# Altium integrated library Lattice ORCA Series 2.IntLib: 202 symbols (part 2 of 22)
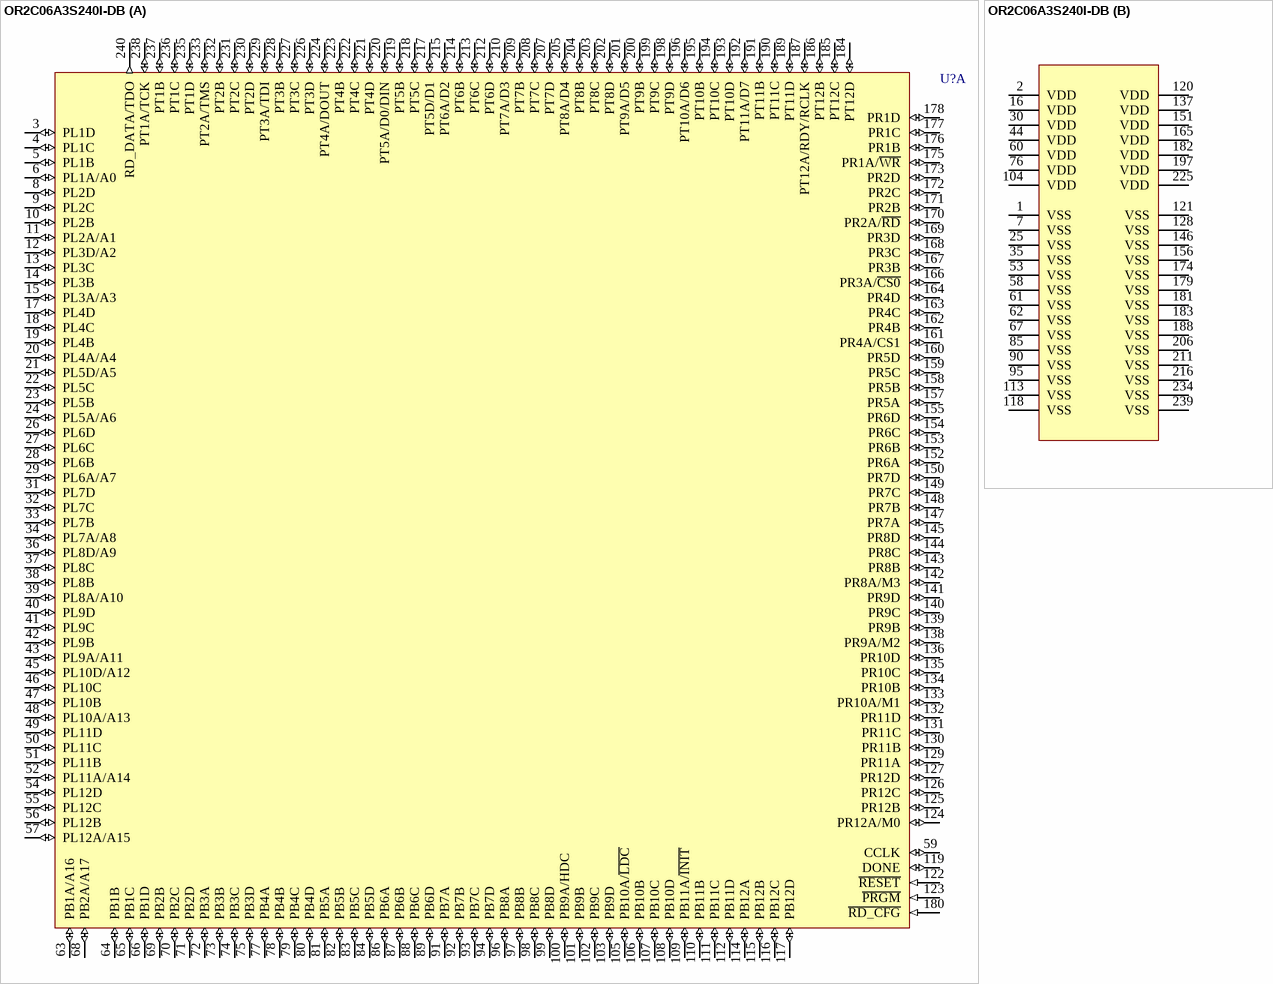
[diagram p193: symbol OR2C06A3S240I-DB]

## OR2C06A3S240I-DB
designator U?
ORCA Series 2C FPGA: 5.0 V, Industrial Grade, 192 User I/Os.; Published: 21-May-2003; LatestRevisionDate: 13-Apr-2006; LatestRevisionNote: IPC-7351 Footprint Added.; DatasheetVersion: Jan-2003; PackageVersion: pkg_32, Aug-2005; PackageReference: PQFP240; Publisher: Altium Limited; PackageDescription: 240-Pin Shrink Quad Flat Pack 0.5 mm Pitch; ComponentLink1Description: Manufacturer Link; ComponentLink1URL: http://www.latticesemi.com/products/fpga/orca/orca2/index.cfm; ComponentLink2Description: Datasheet; ComponentLink2URL: http://www.latticesemi.com/lit/docs/datasheets/fpga/ds99-094fpga.pdf; ComponentLink3Description: Lattice Login; ComponentLink3URL: http://www.latticesemi.com/account/login.cfm
footprint PQFP240_N (Shrink QFP, 240-Leads, Body 32x32mm, Pitch 0.5mm, IPC Medium Density)
footprint PQFP240_L (Shrink QFP, 240-Leads, Body 32x32mm, Pitch 0.5mm, IPC High Density)
footprint PQFP240_M (Shrink QFP, 240-Leads, Body 32x32mm, Pitch 0.5mm, IPC Low Density)
3D model OR2C06A-PQFP240 (240-Pin Shrink Quad Flat Pack 0.5 mm Pitch)
part A pins: 3 PL1D (io), 4 PL1C (io), 5 PL1B (io), 6 PL1A/A0 (io), 8 PL2D (io), 9 PL2C (io), 10 PL2B (io), 11 PL2A/A1 (io), 12 PL3D/A2 (io), 13 PL3C (io), 14 PL3B (io), 15 PL3A/A3 (io), 17 PL4D (io), 18 PL4C (io), 19 PL4B (io), 20 PL4A/A4 (io), 21 PL5D/A5 (io), 22 PL5C (io), 23 PL5B (io), 24 PL5A/A6 (io), 26 PL6D (io), 27 PL6C (io), 28 PL6B (io), 29 PL6A/A7 (io), 31 PL7D (io), 32 PL7C (io), 33 PL7B (io), 34 PL7A/A8 (io), 36 PL8D/A9 (io), 37 PL8C (io), 38 PL8B (io), 39 PL8A/A10 (io), 40 PL9D (io), 41 PL9C (io), 42 PL9B (io), 43 PL9A/A11 (io), 45 PL10D/A12 (io), 46 PL10C (io), 47 PL10B (io), 48 PL10A/A13 (io), 49 PL11D (io), 50 PL11C (io), 51 PL11B (io), 52 PL11A/A14 (io), 54 PL12D (io), 55 PL12C (io), 56 PL12B (io), 57 PL12A/A15 (io), 59 CCLK (io), 63 PB1A/A16 (io), 64 PB1B (io), 65 PB1C (io), 66 PB1D (io), 68 PB2A/A17 (io), 69 PB2B (io), 70 PB2C (io), 71 PB2D (io), 72 PB3A (io), 73 PB3B (io), 74 PB3C (io), 75 PB3D (io), 77 PB4A (io), 78 PB4B (io), 79 PB4C (io), 80 PB4D (io), 81 PB5A (io), 82 PB5B (io), 83 PB5C (io), 84 PB5D (io), 86 PB6A (io), 87 PB6B (io), 88 PB6C (io), 89 PB6D (io), 91 PB7A (io), 92 PB7B (io), 93 PB7C (io), 94 PB7D (io), 96 PB8A (io), 97 PB8B (io), 98 PB8C (io), 99 PB8D (io), 100 PB9A/HDC (io), 101 PB9B (io), 102 PB9C (io), 103 PB9D (io), 105 PB10A/~{LDC} (io), 106 PB10B (io), 107 PB10C (io), 108 PB10D (io), 109 PB11A/~{INIT} (io), 110 PB11B (io), 111 PB11C (io), 112 PB11D (io), 114 PB12A (io), 115 PB12B (io), 116 PB12C (io), 117 PB12D (io), 119 DONE (io), 122 ~{RESET} (in), 123 ~{PRGM} (in), 124 PR12A/M0 (io), 125 PR12B (io), 126 PR12C (io), 127 PR12D (io), 129 PR11A (io), 130 PR11B (io), 131 PR11C (io), 132 PR11D (io), 133 PR10A/M1 (io), 134 PR10B (io), 135 PR10C (io), 136 PR10D (io), 138 PR9A/M2 (io), 139 PR9B (io), 140 PR9C (io), 141 PR9D (io), 142 PR8A/M3 (io), 143 PR8B (io), 144 PR8C (io), 145 PR8D (io), 147 PR7A (io), 148 PR7B (io), 149 PR7C (io), 150 PR7D (io), 152 PR6A (io), 153 PR6B (io), 154 PR6C (io), 155 PR6D (io), 157 PR5A (io), 158 PR5B (io), 159 PR5C (io), 160 PR5D (io), 161 PR4A/CS1 (io), 162 PR4B (io), 163 PR4C (io), 164 PR4D (io), 166 PR3A/~{CS0} (io), 167 PR3B (io), 168 PR3C (io), 169 PR3D (io), 170 PR2A/~{RD} (io), 171 PR2B (io), 172 PR2C (io), 173 PR2D (io), 175 PR1A/~{WR} (io), 176 PR1B (io), 177 PR1C (io), 178 PR1D (io), 180 ~{RD_CFG} (in), 184 PT12D (io), 185 PT12C (io), 186 PT12B (io), 187 PT12A/RDY/RCLK (io), 189 PT11D (io), 190 PT11C (io), 191 PT11B (io), 192 PT11A/D7 (io), 193 PT10D (io), 194 PT10C (io), 195 PT10B (io), 196 PT10A/D6 (io), 198 PT9D (io), 199 PT9C (io), 200 PT9B (io), 201 PT9A/D5 (io), 202 PT8D (io), 203 PT8C (io), 204 PT8B (io), 205 PT8A/D4 (io), 207 PT7D (io), 208 PT7C (io), 209 PT7B (io), 210 PT7A/D3 (io), 212 PT6D (io), 213 PT6C (io), 214 PT6B (io), 215 PT6A/D2 (io), 217 PT5D/D1 (io), 218 PT5C (io), 219 PT5B (io), 220 PT5A/D0/DIN (io), 221 PT4D (io), 222 PT4C (io), 223 PT4B (io), 224 PT4A/DOUT (io), 226 PT3D (io), 227 PT3C (io), 228 PT3B (io), 229 PT3A/TDI (io), 230 PT2D (io), 231 PT2C (io), 232 PT2B (io), 233 PT2A/TMS (io), 235 PT1D (io), 236 PT1C (io), 237 PT1B (io), 238 PT1A/TCK (io), 240 RD_DATA/TDO (out)
part B pins: 1 VSS (power), 2 VDD (power), 7 VSS (power), 16 VDD (power), 25 VSS (power), 30 VDD (power), 35 VSS (power), 44 VDD (power), 53 VSS (power), 58 VSS (power), 60 VDD (power), 61 VSS (power), 62 VSS (power), 67 VSS (power), 76 VDD (power), 85 VSS (power), 90 VSS (power), 95 VSS (power), 104 VDD (power), 113 VSS (power), 118 VSS (power), 120 VDD (power), 121 VSS (power), 128 VSS (power), 137 VDD (power), 146 VSS (power), 151 VDD (power), 156 VSS (power), 165 VDD (power), 174 VSS (power), 179 VSS (power), 181 VSS (power), 182 VDD (power), 183 VSS (power), 188 VSS (power), 197 VDD (power), 206 VSS (power), 211 VSS (power), 216 VSS (power), 225 VDD (power), 234 VSS (power), 239 VSS (power)

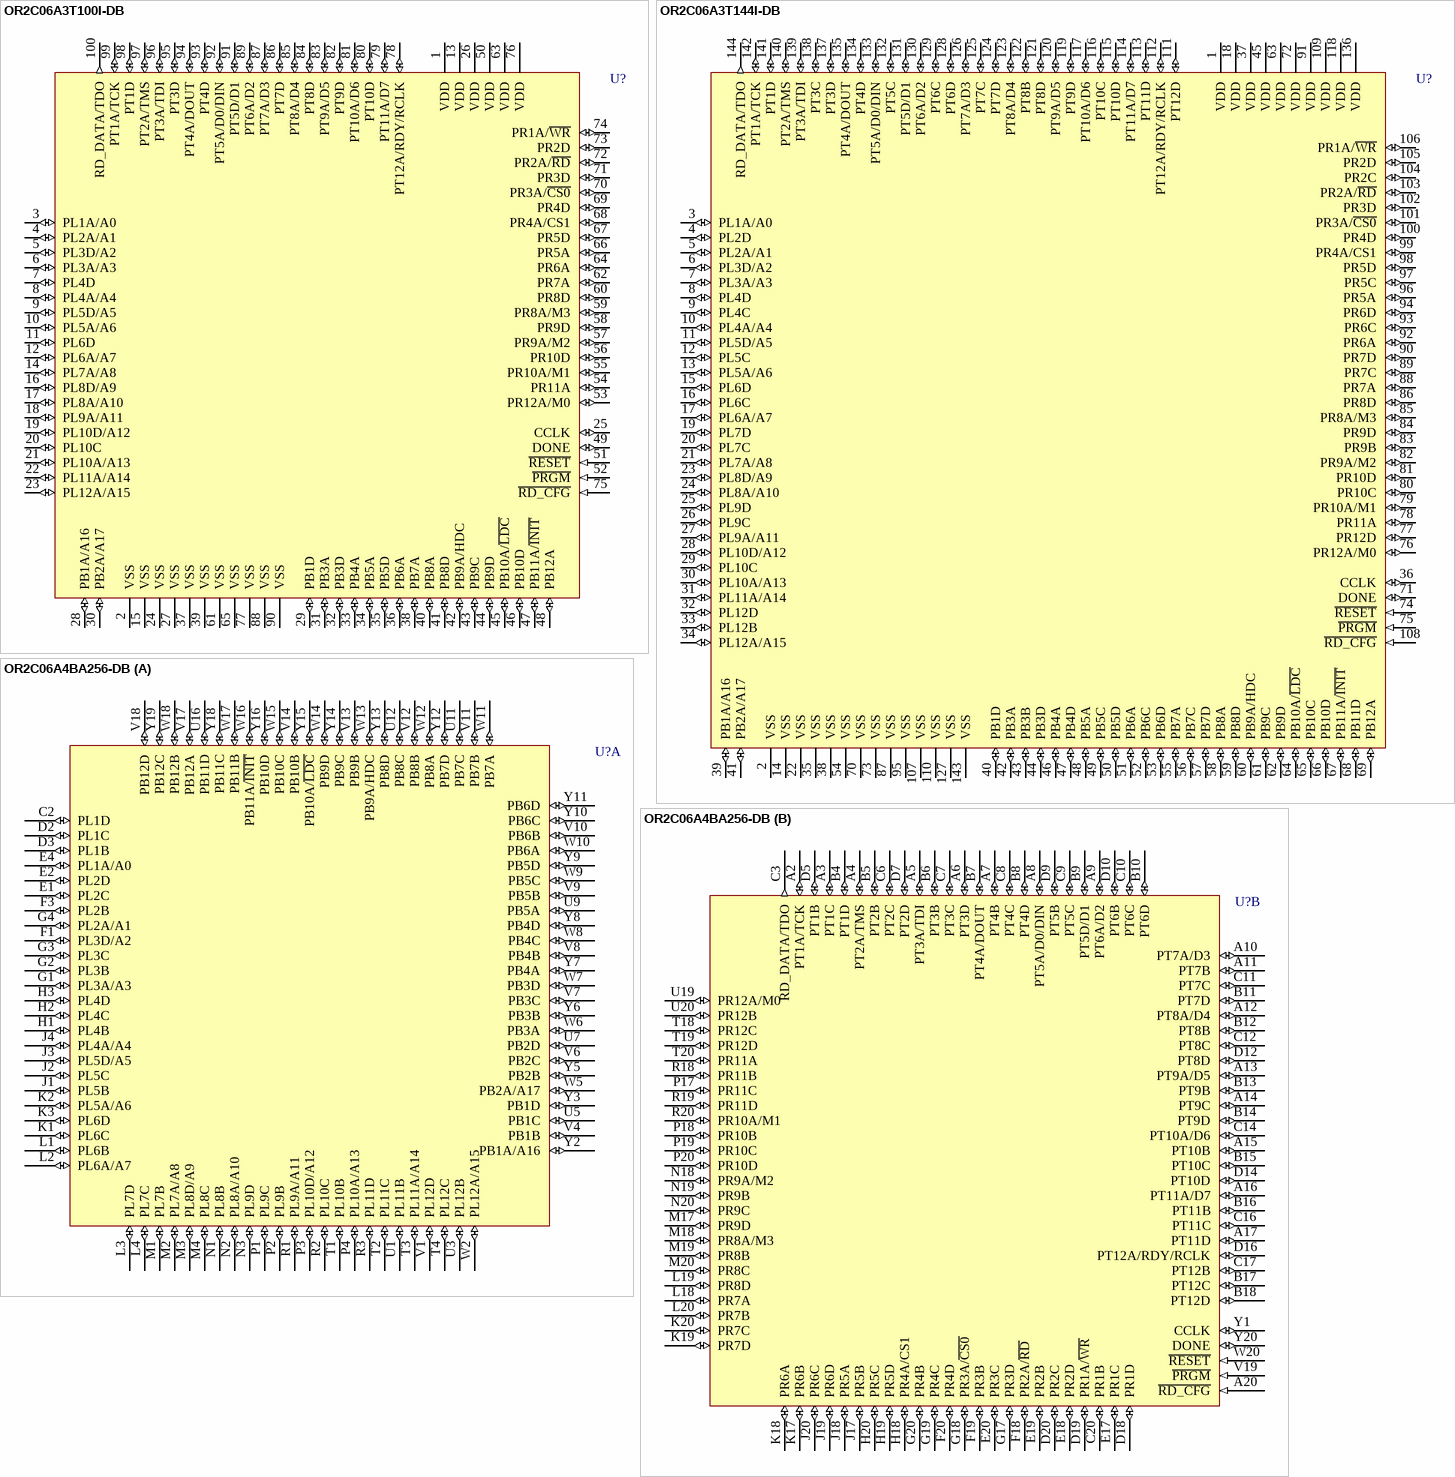
[diagram p8: symbols OR2C06A3T100I-DB to OR2C06A4BA256-DB]

## OR2C06A3T100I-DB
designator U?
ORCA Series 2C FPGA: 5.0 V, Industrial Grade, 192 User I/Os.; Published: 21-May-2003; LatestRevisionDate: 13-Apr-2006; LatestRevisionNote: IPC-7351 Footprint Added.; DatasheetVersion: Jan-2003; PackageVersion: pkg_32, Aug-2005; PackageReference: TQFP100; Publisher: Altium Limited; PackageDescription: 100-Pin Thin Quad Flat Pack (TQFP100); Code_JEDEC: MS-026-BED; ComponentLink1Description: Manufacturer Link; ComponentLink1URL: http://www.latticesemi.com/products/fpga/orca/orca2/index.cfm; ComponentLink2Description: Datasheet; ComponentLink2URL: http://www.latticesemi.com/lit/docs/datasheets/fpga/ds99-094fpga.pdf; ComponentLink3Description: Lattice Login; ComponentLink3URL: http://www.latticesemi.com/account/login.cfm
footprint TQFP100_N (Thin QFP, 100-Leads, Body 14x14mm, Pitch 0.5mm, IPC Medium Density)
footprint TQFP100_L (Thin QFP, 100-Leads, Body 14x14mm, Pitch 0.5mm, IPC High Density)
footprint TQFP100_M (Thin QFP, 100-Leads, Body 14x14mm, Pitch 0.5mm, IPC Low Density)
3D model OR2C06A-TQFP100 (100-Pin Thin Quad Flat Pack (TQFP100))
pins: 1 VDD (power), 2 VSS (power), 3 PL1A/A0 (io), 4 PL2A/A1 (io), 5 PL3D/A2 (io), 6 PL3A/A3 (io), 7 PL4D (io), 8 PL4A/A4 (io), 9 PL5D/A5 (io), 10 PL5A/A6 (io), 11 PL6D (io), 12 PL6A/A7 (io), 13 VDD (power), 14 PL7A/A8 (io), 15 VSS (power), 16 PL8D/A9 (io), 17 PL8A/A10 (io), 18 PL9A/A11 (io), 19 PL10D/A12 (io), 20 PL10C (io), 21 PL10A/A13 (io), 22 PL11A/A14 (io), 23 PL12A/A15 (io), 24 VSS (power), 25 CCLK (io), 26 VDD (power), 27 VSS (power), 28 PB1A/A16 (io), 29 PB1D (io), 30 PB2A/A17 (io), 31 PB3A (io), 32 PB3D (io), 33 PB4A (io), 34 PB5A (io), 35 PB5D (io), 36 PB6A (io), 37 VSS (power), 38 PB7A (io), 39 VSS (power), 40 PB8A (io), 41 PB8D (io), 42 PB9A/HDC (io), 43 PB9C (io), 44 PB9D (io), 45 PB10A/~{LDC} (io), 46 PB10D (io), 47 PB11A/~{INIT} (io), 48 PB12A (io), 49 DONE (io), 50 VDD (power), 51 ~{RESET} (in), 52 ~{PRGM} (in), 53 PR12A/M0 (io), 54 PR11A (io), 55 PR10A/M1 (io), 56 PR10D (io), 57 PR9A/M2 (io), 58 PR9D (io), 59 PR8A/M3 (io), 60 PR8D (io), 61 VSS (power), 62 PR7A (io), 63 VDD (power), 64 PR6A (io), 65 VSS (power), 66 PR5A (io), 67 PR5D (io), 68 PR4A/CS1 (io), 69 PR4D (io), 70 PR3A/~{CS0} (io), 71 PR3D (io), 72 PR2A/~{RD} (io), 73 PR2D (io), 74 PR1A/~{WR} (io), 75 ~{RD_CFG} (in), 76 VDD (power), 77 VSS (power), 78 PT12A/RDY/RCLK (io), 79 PT11A/D7 (io), 80 PT10D (io), 81 PT10A/D6 (io), 82 PT9D (io), 83 PT9A/D5 (io), 84 PT8D (io), 85 PT8A/D4 (io), 86 PT7D (io), 87 PT7A/D3 (io), 88 VSS (power), 89 PT6A/D2 (io), 90 VSS (power), 91 PT5D/D1 (io), 92 PT5A/D0/DIN (io), 93 PT4D (io), 94 PT4A/DOUT (io), 95 PT3D (io), 96 PT3A/TDI (io), 97 PT2A/TMS (io), 98 PT1D (io), 99 PT1A/TCK (io), 100 RD_DATA/TDO (out)

## OR2C06A3T144I-DB
designator U?
ORCA Series 2C FPGA: 5.0 V, Industrial Grade, 192 User I/Os.; Published: 21-May-2003; LatestRevisionDate: 13-Apr-2006; LatestRevisionNote: IPC-7351 Footprint Added.; DatasheetVersion: Jan-2003; PackageVersion: pkg_32, Aug-2005; PackageReference: TQFP144; Publisher: Altium Limited; PackageDescription: 144-Pin Thin Quad Flat Pack (TQFP144); Code_JEDEC: MS-026-BFB; ComponentLink1Description: Manufacturer Link; ComponentLink1URL: http://www.latticesemi.com/products/fpga/orca/orca2/index.cfm; ComponentLink2Description: Datasheet; ComponentLink2URL: http://www.latticesemi.com/lit/docs/datasheets/fpga/ds99-094fpga.pdf; ComponentLink3Description: Lattice Login; ComponentLink3URL: http://www.latticesemi.com/account/login.cfm
footprint TQFP144_N (Thin QFP, 144-Leads, Body 20x20mm, Pitch 0.5mm, IPC Medium Density)
footprint TQFP144_L (Thin QFP, 144-Leads, Body 20x20mm, Pitch 0.5mm, IPC High Density)
footprint TQFP144_M (Thin QFP, 144-Leads, Body 20x20mm, Pitch 0.5mm, IPC Low Density)
3D model OR2C06A-TQFP144 (144-Pin Thin Quad Flat Pack (TQFP144))
pins: 1 VDD (power), 2 VSS (power), 3 PL1A/A0 (io), 4 PL2D (io), 5 PL2A/A1 (io), 6 PL3D/A2 (io), 7 PL3A/A3 (io), 8 PL4D (io), 9 PL4C (io), 10 PL4A/A4 (io), 11 PL5D/A5 (io), 12 PL5C (io), 13 PL5A/A6 (io), 14 VSS (power), 15 PL6D (io), 16 PL6C (io), 17 PL6A/A7 (io), 18 VDD (power), 19 PL7D (io), 20 PL7C (io), 21 PL7A/A8 (io), 22 VSS (power), 23 PL8D/A9 (io), 24 PL8A/A10 (io), 25 PL9D (io), 26 PL9C (io), 27 PL9A/A11 (io), 28 PL10D/A12 (io), 29 PL10C (io), 30 PL10A/A13 (io), 31 PL11A/A14 (io), 32 PL12D (io), 33 PL12B (io), 34 PL12A/A15 (io), 35 VSS (power), 36 CCLK (io), 37 VDD (power), 38 VSS (power), 39 PB1A/A16 (io), 40 PB1D (io), 41 PB2A/A17 (io), 42 PB3A (io), 43 PB3B (io), 44 PB3D (io), 45 VDD (power), 46 PB4A (io), 47 PB4D (io), 48 PB5A (io), 49 PB5C (io), 50 PB5D (io), 51 PB6A (io), 52 PB6C (io), 53 PB6D (io), 54 VSS (power), 55 PB7A (io), 56 PB7C (io), 57 PB7D (io), 58 PB8A (io), 59 PB8D (io), 60 PB9A/HDC (io), 61 PB9C (io), 62 PB9D (io), 63 VDD (power), 64 PB10A/~{LDC} (io), 65 PB10C (io), 66 PB10D (io), 67 PB11A/~{INIT} (io), 68 PB11D (io), 69 PB12A (io), 70 VSS (power), 71 DONE (io), 72 VDD (power), 73 VSS (power), 74 ~{RESET} (in), 75 ~{PRGM} (in), 76 PR12A/M0 (io), 77 PR12D (io), 78 PR11A (io), 79 PR10A/M1 (io), 80 PR10C (io), 81 PR10D (io), 82 PR9A/M2 (io), 83 PR9B (io), 84 PR9D (io), 85 PR8A/M3 (io), 86 PR8D (io), 87 VSS (power), 88 PR7A (io), 89 PR7C (io), 90 PR7D (io), 91 VDD (power), 92 PR6A (io), 93 PR6C (io), 94 PR6D (io), 95 VSS (power), 96 PR5A (io), 97 PR5C (io), 98 PR5D (io), 99 PR4A/CS1 (io), 100 PR4D (io), 101 PR3A/~{CS0} (io), 102 PR3D (io), 103 PR2A/~{RD} (io), 104 PR2C (io), 105 PR2D (io), 106 PR1A/~{WR} (io), 107 VSS (power), 108 ~{RD_CFG} (in), 109 VDD (power), 110 VSS (power), 111 PT12D (io), 112 PT12A/RDY/RCLK (io), 113 PT11D (io), 114 PT11A/D7 (io), 115 PT10D (io), 116 PT10C (io), 117 PT10A/D6 (io), 118 VDD (power), 119 PT9D (io), 120 PT9A/D5 (io), 121 PT8D (io), 122 PT8B (io), 123 PT8A/D4 (io), 124 PT7D (io), 125 PT7C (io), 126 PT7A/D3 (io), 127 VSS (power), 128 PT6D (io), 129 PT6C (io), 130 PT6A/D2 (io), 131 PT5D/D1 (io), 132 PT5C (io), 133 PT5A/D0/DIN (io), 134 PT4D (io), 135 PT4A/DOUT (io), 136 VDD (power), 137 PT3D (io), 138 PT3C (io), 139 PT3A/TDI (io), 140 PT2A/TMS (io), 141 PT1D (io), 142 PT1A/TCK (io), 143 VSS (power), 144 RD_DATA/TDO (out)

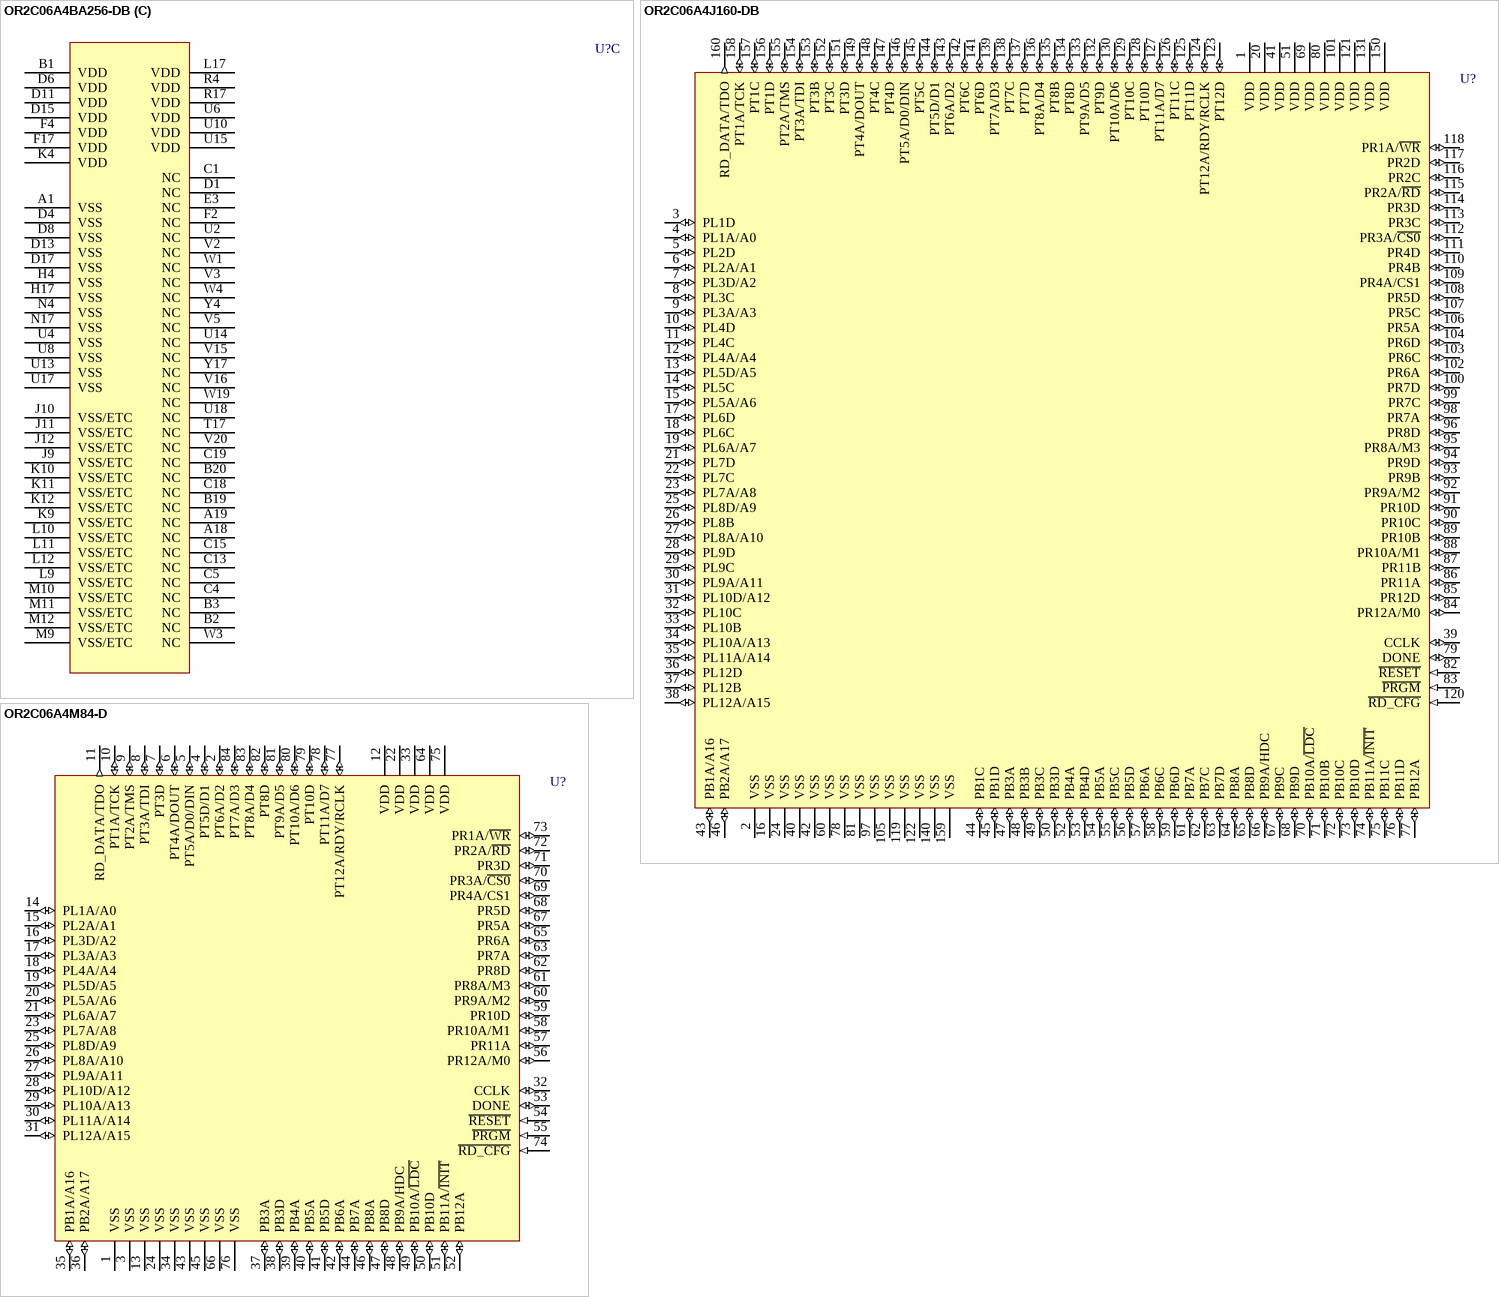
[diagram p9: symbols OR2C06A4BA256-DB to OR2C06A4M84-D]

## OR2C06A4BA256-DB
designator U?
ORCA Series 2C FPGA: 5.0 V, Commercial Grade, 192 User I/Os.; PinConnectionRecommendation: Ground array of 'VSS-ETC' pins for enhanced thermal capability or leave unconnected.; Published: 21-May-2003; LatestRevisionDate: 13-Apr-2006; LatestRevisionNote: IPC-7351 Footprint Added.; DatasheetVersion: Jan-2003; PackageVersion: pkg_32, Aug-2005; PackageReference: BGA272; Publisher: Altium Limited; PackageDescription: 272-Ball Ball Grid Array (BGA272); ComponentLink1Description: Manufacturer Link; ComponentLink1URL: http://www.latticesemi.com/products/fpga/orca/orca2/index.cfm; ComponentLink2Description: Datasheet; ComponentLink2URL: http://www.latticesemi.com/lit/docs/datasheets/fpga/ds99-094fpga.pdf; ComponentLink3Description: Lattice Login; ComponentLink3URL: http://www.latticesemi.com/account/login.cfm
footprint BGA272 (BGA, 272-Leads, Body 27x27mm, Pitch 1.27mm)
3D model OR2C06A-BGA272 (272-Ball Ball Grid Array (BGA272))
part A pins: C2 PL1D (io), D2 PL1C (io), D3 PL1B (io), E1 PL2C (io), E2 PL2D (io), E4 PL1A/A0 (io), F1 PL3D/A2 (io), F3 PL2B (io), G1 PL3A/A3 (io), G2 PL3B (io), G3 PL3C (io), G4 PL2A/A1 (io), H1 PL4B (io), H2 PL4C (io), H3 PL4D (io), J1 PL5B (io), J2 PL5C (io), J3 PL5D/A5 (io), J4 PL4A/A4 (io), K1 PL6C (io), K2 PL5A/A6 (io), K3 PL6D (io), L1 PL6B (io), L2 PL6A/A7 (io), L3 PL7D (io), L4 PL7C (io), M1 PL7B (io), M2 PL7A/A8 (io), M3 PL8D/A9 (io), M4 PL8C (io), N1 PL8B (io), N2 PL8A/A10 (io), N3 PL9D (io), P1 PL9C (io), P2 PL9B (io), P3 PL10D/A12 (io), P4 PL10A/A13 (io), R1 PL9A/A11 (io), R2 PL10C (io), R3 PL11D (io), T1 PL10B (io), T2 PL11C (io), T3 PL11A/A14 (io), T4 PL12C (io), U1 PL11B (io), U3 PL12B (io), U5 PB1C (io), U7 PB2D (io), U9 PB5A (io), U11 PB7C (io), U12 PB8C (io), U16 PB11D (io), V1 PL12D (io), V4 PB1B (io), V6 PB2C (io), V7 PB3C (io), V8 PB4B (io), V9 PB5B (io), V10 PB6B (io), V11 PB7B (io), V12 PB8B (io), V13 PB9B (io), V14 PB10B (io), V17 PB12A (io), V18 PB12D (io), W2 PL12A/A15 (io), W5 PB2A/A17 (io), W6 PB3A (io), W7 PB3D (io), W8 PB4C (io), W9 PB5C (io), W10 PB6A (io), W11 PB7A (io), W12 PB8A (io), W13 PB9A/HDC (io), W14 PB9D (io), W15 PB10C (io), W16 PB11A/~{INIT} (io), W17 PB11B (io), W18 PB12B (io), Y2 PB1A/A16 (io), Y3 PB1D (io), Y5 PB2B (io), Y6 PB3B (io), Y7 PB4A (io), Y8 PB4D (io), Y9 PB5D (io), Y10 PB6C (io), Y11 PB6D (io), Y12 PB7D (io), Y13 PB8D (io), Y14 PB9C (io), Y15 PB10A/~{LDC} (io), Y16 PB10D (io), Y18 PB11C (io), Y19 PB12C (io)
part B pins: A2 PT1A/TCK (io), A3 PT1C (io), A4 PT2A/TMS (io), A5 PT3A/TDI (io), A6 PT3D (io), A7 PT4B (io), A8 PT5A/D0/DIN (io), A9 PT6A/D2 (io), A10 PT7A/D3 (io), A11 PT7B (io), A12 PT8A/D4 (io), A13 PT9A/D5 (io), A14 PT9C (io), A15 PT10B (io), A16 PT11A/D7 (io), A17 PT11D (io), A20 ~{RD_CFG} (in), B4 PT1D (io), B5 PT2B (io), B6 PT3B (io), B7 PT4A/DOUT (io), B8 PT4D (io), B9 PT5D/D1 (io), B10 PT6D (io), B11 PT7D (io), B12 PT8B (io), B13 PT9B (io), B14 PT9D (io), B15 PT10C (io), B16 PT11B (io), B17 PT12C (io), B18 PT12D (io), C3 RD_DATA/TDO (out), C6 PT2C (io), C7 PT3C (io), C8 PT4C (io), C9 PT5C (io), C10 PT6C (io), C11 PT7C (io), C12 PT8C (io), C14 PT10A/D6 (io), C16 PT11C (io), C17 PT12B (io), C20 PR1B (io), D5 PT1B (io), D7 PT2D (io), D9 PT5B (io), D10 PT6B (io), D12 PT8D (io), D14 PT10D (io), D16 PT12A/RDY/RCLK (io), D18 PR1D (io), D19 PR1A/~{WR} (io), D20 PR2C (io), E17 PR1C (io), E18 PR2D (io), E19 PR2B (io), E20 PR3C (io), F18 PR2A/~{RD} (io), F19 PR3B (io), F20 PR4D (io), G17 PR3D (io), G18 PR3A/~{CS0} (io), G19 PR4C (io), G20 PR4B (io), H18 PR4A/CS1 (io), H19 PR5D (io), H20 PR5C (io), J17 PR5B (io), J18 PR5A (io), J19 PR6D (io), J20 PR6C (io), K17 PR6B (io), K18 PR6A (io), K19 PR7D (io), K20 PR7C (io), L18 PR7A (io), L19 PR8D (io), L20 PR7B (io), M17 PR9D (io), M18 PR8A/M3 (io), M19 PR8B (io), M20 PR8C (io), N18 PR9A/M2 (io), N19 PR9B (io), N20 PR9C (io), P17 PR11C (io), P18 PR10B (io), P19 PR10C (io), P20 PR10D (io), R18 PR11B (io), R19 PR11D (io), R20 PR10A/M1 (io), T18 PR12C (io), T19 PR12D (io), T20 PR11A (io), U19 PR12A/M0 (io), U20 PR12B (io), V19 ~{PRGM} (in), W20 ~{RESET} (in), Y1 CCLK (io), Y20 DONE (io)
part C pins: A1 VSS (power), A18 NC, A19 NC, B1 VDD (power), B2 NC, B3 NC, B19 NC, B20 NC, C1 NC, C4 NC, C5 NC, C13 NC, C15 NC, C18 NC, C19 NC, D1 NC, D4 VSS (power), D6 VDD (power), D8 VSS (power), D11 VDD (power), D13 VSS (power), D15 VDD (power), D17 VSS (power), E3 NC, F2 NC, F4 VDD (power), F17 VDD (power), H4 VSS (power), H17 VSS (power), J9 VSS/ETC (power), J10 VSS/ETC (power), J11 VSS/ETC (power), J12 VSS/ETC (power), K4 VDD (power), K9 VSS/ETC (power), K10 VSS/ETC (power), K11 VSS/ETC (power), K12 VSS/ETC (power), L9 VSS/ETC (power), L10 VSS/ETC (power), L11 VSS/ETC (power), L12 VSS/ETC (power), L17 VDD (power), M9 VSS/ETC (power), M10 VSS/ETC (power), M11 VSS/ETC (power), M12 VSS/ETC (power), N4 VSS (power), N17 VSS (power), R4 VDD (power), R17 VDD (power), T17 NC, U2 NC, U4 VSS (power), U6 VDD (power), U8 VSS (power), U10 VDD (power), U13 VSS (power), U14 NC, U15 VDD (power), U17 VSS (power), U18 NC, V2 NC, V3 NC, V5 NC, V15 NC, V16 NC, V20 NC, W1 NC, W3 NC, W4 NC, W19 NC, Y4 NC, Y17 NC

## OR2C06A4J160-DB
designator U?
ORCA Series 2C FPGA: 5.0 V, Commercial Grade, 192 User I/Os.; Published: 21-May-2003; LatestRevisionDate: 13-Apr-2006; LatestRevisionNote: IPC-7351 Footprint Added.; DatasheetVersion: Jan-2003; PackageVersion: pkg_32, Aug-2005; PackageReference: PQFP160; Publisher: Altium Limited; PackageDescription: 160-Pin Quad Flat Pack 0.65 mm Pitch; Code_IPC: QFP65P3120X3120-160; ComponentLink1Description: Manufacturer Link; ComponentLink1URL: http://www.latticesemi.com/products/fpga/orca/orca2/index.cfm; ComponentLink2Description: Datasheet; ComponentLink2URL: http://www.latticesemi.com/lit/docs/datasheets/fpga/ds99-094fpga.pdf; ComponentLink3Description: Lattice Login; ComponentLink3URL: http://www.latticesemi.com/account/login.cfm
footprint PQFP160_N (QFP, 160-Leads, Body 28 x 28mm, Pitch 0.65mm, IPC Medium Density)
footprint PQFP160_L (QFP, 160-Leads, Body 28 x 28mm, Pitch 0.65mm, IPC High Density)
footprint PQFP160_M (QFP, 160-Leads, Body 28 x 28mm, Pitch 0.65mm, IPC Low Density)
3D model OR2C06A-PQFP160 (160-Pin Quad Flat Pack 0.65 mm Pitch)
pins: 1 VDD (power), 2 VSS (power), 3 PL1D (io), 4 PL1A/A0 (io), 5 PL2D (io), 6 PL2A/A1 (io), 7 PL3D/A2 (io), 8 PL3C (io), 9 PL3A/A3 (io), 10 PL4D (io), 11 PL4C (io), 12 PL4A/A4 (io), 13 PL5D/A5 (io), 14 PL5C (io), 15 PL5A/A6 (io), 16 VSS (power), 17 PL6D (io), 18 PL6C (io), 19 PL6A/A7 (io), 20 VDD (power), 21 PL7D (io), 22 PL7C (io), 23 PL7A/A8 (io), 24 VSS (power), 25 PL8D/A9 (io), 26 PL8B (io), 27 PL8A/A10 (io), 28 PL9D (io), 29 PL9C (io), 30 PL9A/A11 (io), 31 PL10D/A12 (io), 32 PL10C (io), 33 PL10B (io), 34 PL10A/A13 (io), 35 PL11A/A14 (io), 36 PL12D (io), 37 PL12B (io), 38 PL12A/A15 (io), 39 CCLK (io), 40 VSS (power), 41 VDD (power), 42 VSS (power), 43 PB1A/A16 (io), 44 PB1C (io), 45 PB1D (io), 46 PB2A/A17 (io), 47 PB3A (io), 48 PB3B (io), 49 PB3C (io), 50 PB3D (io), 51 VDD (power), 52 PB4A (io), 53 PB4D (io), 54 PB5A (io), 55 PB5C (io), 56 PB5D (io), 57 PB6A (io), 58 PB6C (io), 59 PB6D (io), 60 VSS (power), 61 PB7A (io), 62 PB7C (io), 63 PB7D (io), 64 PB8A (io), 65 PB8D (io), 66 PB9A/HDC (io), 67 PB9C (io), 68 PB9D (io), 69 VDD (power), 70 PB10A/~{LDC} (io), 71 PB10B (io), 72 PB10C (io), 73 PB10D (io), 74 PB11A/~{INIT} (io), 75 PB11C (io), 76 PB11D (io), 77 PB12A (io), 78 VSS (power), 79 DONE (io), 80 VDD (power), 81 VSS (power), 82 ~{RESET} (in), 83 ~{PRGM} (in), 84 PR12A/M0 (io), 85 PR12D (io), 86 PR11A (io), 87 PR11B (io), 88 PR10A/M1 (io), 89 PR10B (io), 90 PR10C (io), 91 PR10D (io), 92 PR9A/M2 (io), 93 PR9B (io), 94 PR9D (io), 95 PR8A/M3 (io), 96 PR8D (io), 97 VSS (power), 98 PR7A (io), 99 PR7C (io), 100 PR7D (io), 101 VDD (power), 102 PR6A (io), 103 PR6C (io), 104 PR6D (io), 105 VSS (power), 106 PR5A (io), 107 PR5C (io), 108 PR5D (io), 109 PR4A/CS1 (io), 110 PR4B (io), 111 PR4D (io), 112 PR3A/~{CS0} (io), 113 PR3C (io), 114 PR3D (io), 115 PR2A/~{RD} (io), 116 PR2C (io), 117 PR2D (io), 118 PR1A/~{WR} (io), 119 VSS (power), 120 ~{RD_CFG} (in), 121 VDD (power), 122 VSS (power), 123 PT12D (io), 124 PT12A/RDY/RCLK (io), 125 PT11D (io), 126 PT11C (io), 127 PT11A/D7 (io), 128 PT10D (io), 129 PT10C (io), 130 PT10A/D6 (io), 131 VDD (power), 132 PT9D (io), 133 PT9A/D5 (io), 134 PT8D (io), 135 PT8B (io), 136 PT8A/D4 (io), 137 PT7D (io), 138 PT7C (io), 139 PT7A/D3 (io), 140 VSS (power), 141 PT6D (io), 142 PT6C (io), 143 PT6A/D2 (io), 144 PT5D/D1 (io), 145 PT5C (io), 146 PT5A/D0/DIN (io), 147 PT4D (io), 148 PT4C (io), 149 PT4A/DOUT (io), 150 VDD (power), 151 PT3D (io), 152 PT3C (io), 153 PT3B (io), 154 PT3A/TDI (io), 155 PT2A/TMS (io), 156 PT1D (io), 157 PT1C (io), 158 PT1A/TCK (io), 159 VSS (power), 160 RD_DATA/TDO (out)

## OR2C06A4M84-D
designator U?
ORCA Series 2C FPGA: 5.0 V, Commercial Grade, 192 User I/Os.; Published: 21-May-2003; LatestRevisionDate: 13-Apr-2006; LatestRevisionNote: IPC-7351 Footprint Added.; DatasheetVersion: Jan-2003; PackageVersion: pkg_32, Aug-2005; PackageReference: PLCC84; Publisher: Altium Limited; PackageDescription: 84-Pin Leaded Chip Carrier 1.27 mm Pitch; Code_IPC: PLCC-84; ComponentLink1Description: Manufacturer Link; ComponentLink1URL: http://www.latticesemi.com/products/fpga/orca/orca2/index.cfm; ComponentLink2Description: Datasheet; ComponentLink2URL: http://www.latticesemi.com/lit/docs/datasheets/fpga/ds99-094fpga.pdf; ComponentLink3Description: Lattice Login; ComponentLink3URL: http://www.latticesemi.com/account/login.cfm
footprint PLCC84_N (Leaded Chip Carrier, 84-Leads, Body 29.3x29.3mm, Pitch 1.27mm, IPC Medium Density)
footprint PLCC84_L (Leaded Chip Carrier, 84-Leads, Body 29.3x29.3mm, Pitch 1.27mm, IPC High Density)
footprint PLCC84_M (Leaded Chip Carrier, 84-Leads, Body 29.3x29.3mm, Pitch 1.27mm, IPC Low Density)
3D model OR2C06A-PLCC84 (84-Pin Leaded Chip Carrier 1.27 mm Pitch)
pins: 1 VSS (power), 2 PT6A/D2 (io), 3 VSS (power), 4 PT5D/D1 (io), 5 PT5A/D0/DIN (io), 6 PT4A/DOUT (io), 7 PT3D (io), 8 PT3A/TDI (io), 9 PT2A/TMS (io), 10 PT1A/TCK (io), 11 RD_DATA/TDO (out), 12 VDD (power), 13 VSS (power), 14 PL1A/A0 (io), 15 PL2A/A1 (io), 16 PL3D/A2 (io), 17 PL3A/A3 (io), 18 PL4A/A4 (io), 19 PL5D/A5 (io), 20 PL5A/A6 (io), 21 PL6A/A7 (io), 22 VDD (power), 23 PL7A/A8 (io), 24 VSS (power), 25 PL8D/A9 (io), 26 PL8A/A10 (io), 27 PL9A/A11 (io), 28 PL10D/A12 (io), 29 PL10A/A13 (io), 30 PL11A/A14 (io), 31 PL12A/A15 (io), 32 CCLK (io), 33 VDD (power), 34 VSS (power), 35 PB1A/A16 (io), 36 PB2A/A17 (io), 37 PB3A (io), 38 PB3D (io), 39 PB4A (io), 40 PB5A (io), 41 PB5D (io), 42 PB6A (io), 43 VSS (power), 44 PB7A (io), 45 VSS (power), 46 PB8A (io), 47 PB8D (io), 48 PB9A/HDC (io), 49 PB10A/~{LDC} (io), 50 PB10D (io), 51 PB11A/~{INIT} (io), 52 PB12A (io), 53 DONE (io), 54 ~{RESET} (in), 55 ~{PRGM} (in), 56 PR12A/M0 (io), 57 PR11A (io), 58 PR10A/M1 (io), 59 PR10D (io), 60 PR9A/M2 (io), 61 PR8A/M3 (io), 62 PR8D (io), 63 PR7A (io), 64 VDD (power), 65 PR6A (io), 66 VSS (power), 67 PR5A (io), 68 PR5D (io), 69 PR4A/CS1 (io), 70 PR3A/~{CS0} (io), 71 PR3D (io), 72 PR2A/~{RD} (io), 73 PR1A/~{WR} (io), 74 ~{RD_CFG} (in), 75 VDD (power), 76 VSS (power), 77 PT12A/RDY/RCLK (io), 78 PT11A/D7 (io), 79 PT10D (io), 80 PT10A/D6 (io), 81 PT9A/D5 (io), 82 PT8D (io), 83 PT8A/D4 (io), 84 PT7A/D3 (io)

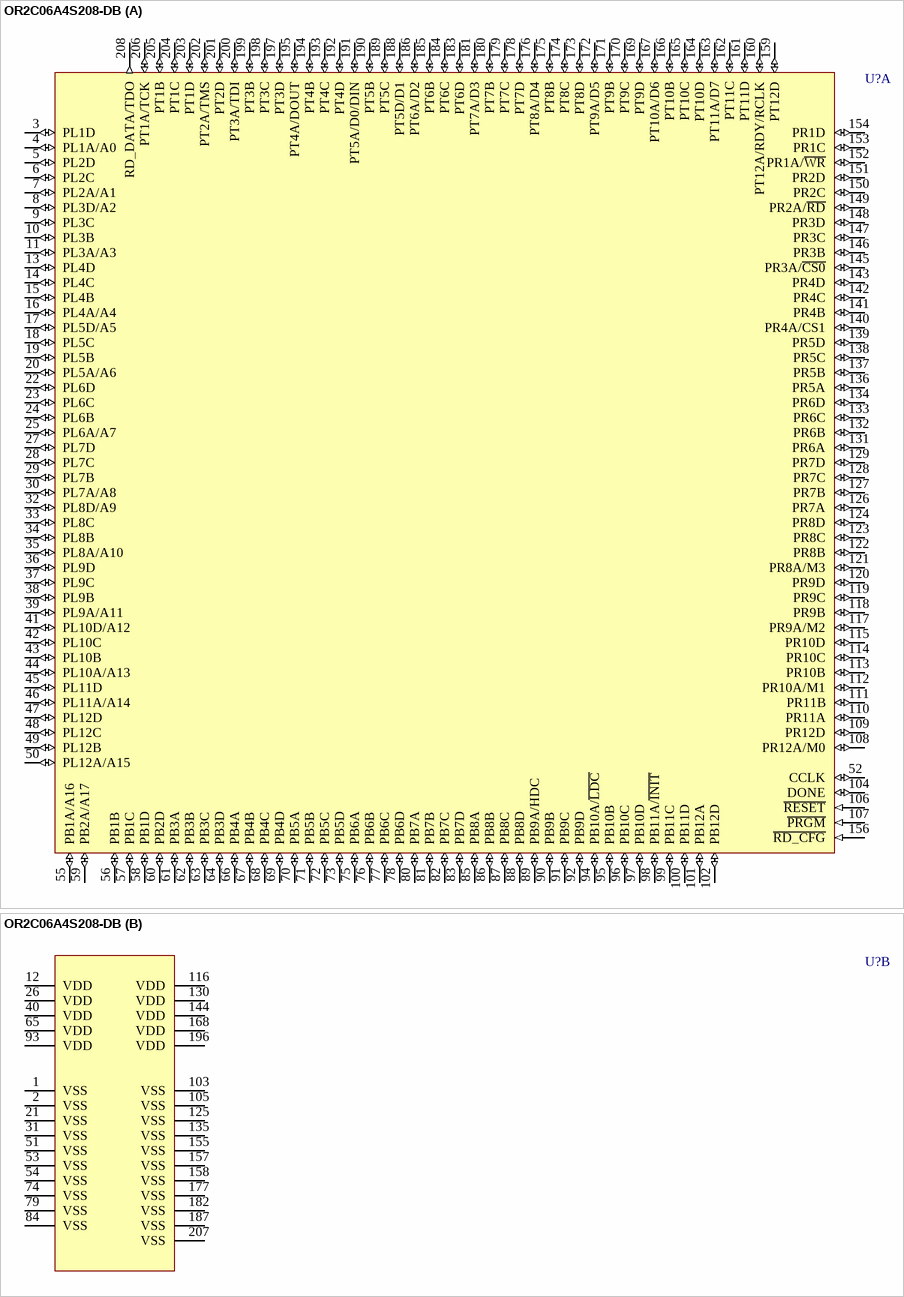
[diagram p10: symbol OR2C06A4S208-DB]

## OR2C06A4S208-DB
designator U?
ORCA Series 2C FPGA: 5.0 V, Commercial Grade, 192 User I/Os.; Published: 21-May-2003; LatestRevisionDate: 13-Apr-2006; LatestRevisionNote: IPC-7351 Footprint Added.; DatasheetVersion: Jan-2003; PackageVersion: pkg_32, Aug-2005; PackageReference: PQFP208; Publisher: Altium Limited; PackageDescription: 208-Pin Plastic Quad Flat Pack (PQFP208); Code_JEDEC: MO-143-FAI; ComponentLink1Description: Manufacturer Link; ComponentLink1URL: http://www.latticesemi.com/products/fpga/orca/orca2/index.cfm; ComponentLink2Description: Datasheet; ComponentLink2URL: http://www.latticesemi.com/lit/docs/datasheets/fpga/ds99-094fpga.pdf; ComponentLink3Description: Lattice Login; ComponentLink3URL: http://www.latticesemi.com/account/login.cfm
footprint PQFP208_N (Shrink QFP, 208-Leads, Body 28x28mm, Pitch 0.5mm, IPC Medium Density)
footprint PQFP208_L (Shrink QFP, 208-Leads, Body 28x28mm, Pitch 0.5mm, IPC High Density)
footprint PQFP208_M (Shrink QFP, 208-Leads, Body 28x28mm, Pitch 0.5mm, IPC Low Density)
3D model OR2C06A-PQFP208 (208-Pin Plastic Quad Flat Pack (PQFP208))
part A pins: 3 PL1D (io), 4 PL1A/A0 (io), 5 PL2D (io), 6 PL2C (io), 7 PL2A/A1 (io), 8 PL3D/A2 (io), 9 PL3C (io), 10 PL3B (io), 11 PL3A/A3 (io), 13 PL4D (io), 14 PL4C (io), 15 PL4B (io), 16 PL4A/A4 (io), 17 PL5D/A5 (io), 18 PL5C (io), 19 PL5B (io), 20 PL5A/A6 (io), 22 PL6D (io), 23 PL6C (io), 24 PL6B (io), 25 PL6A/A7 (io), 27 PL7D (io), 28 PL7C (io), 29 PL7B (io), 30 PL7A/A8 (io), 32 PL8D/A9 (io), 33 PL8C (io), 34 PL8B (io), 35 PL8A/A10 (io), 36 PL9D (io), 37 PL9C (io), 38 PL9B (io), 39 PL9A/A11 (io), 41 PL10D/A12 (io), 42 PL10C (io), 43 PL10B (io), 44 PL10A/A13 (io), 45 PL11D (io), 46 PL11A/A14 (io), 47 PL12D (io), 48 PL12C (io), 49 PL12B (io), 50 PL12A/A15 (io), 52 CCLK (io), 55 PB1A/A16 (io), 56 PB1B (io), 57 PB1C (io), 58 PB1D (io), 59 PB2A/A17 (io), 60 PB2D (io), 61 PB3A (io), 62 PB3B (io), 63 PB3C (io), 64 PB3D (io), 66 PB4A (io), 67 PB4B (io), 68 PB4C (io), 69 PB4D (io), 70 PB5A (io), 71 PB5B (io), 72 PB5C (io), 73 PB5D (io), 75 PB6A (io), 76 PB6B (io), 77 PB6C (io), 78 PB6D (io), 80 PB7A (io), 81 PB7B (io), 82 PB7C (io), 83 PB7D (io), 85 PB8A (io), 86 PB8B (io), 87 PB8C (io), 88 PB8D (io), 89 PB9A/HDC (io), 90 PB9B (io), 91 PB9C (io), 92 PB9D (io), 94 PB10A/~{LDC} (io), 95 PB10B (io), 96 PB10C (io), 97 PB10D (io), 98 PB11A/~{INIT} (io), 99 PB11C (io), 100 PB11D (io), 101 PB12A (io), 102 PB12D (io), 104 DONE (io), 106 ~{RESET} (in), 107 ~{PRGM} (in), 108 PR12A/M0 (io), 109 PR12D (io), 110 PR11A (io), 111 PR11B (io), 112 PR10A/M1 (io), 113 PR10B (io), 114 PR10C (io), 115 PR10D (io), 117 PR9A/M2 (io), 118 PR9B (io), 119 PR9C (io), 120 PR9D (io), 121 PR8A/M3 (io), 122 PR8B (io), 123 PR8C (io), 124 PR8D (io), 126 PR7A (io), 127 PR7B (io), 128 PR7C (io), 129 PR7D (io), 131 PR6A (io), 132 PR6B (io), 133 PR6C (io), 134 PR6D (io), 136 PR5A (io), 137 PR5B (io), 138 PR5C (io), 139 PR5D (io), 140 PR4A/CS1 (io), 141 PR4B (io), 142 PR4C (io), 143 PR4D (io), 145 PR3A/~{CS0} (io), 146 PR3B (io), 147 PR3C (io), 148 PR3D (io), 149 PR2A/~{RD} (io), 150 PR2C (io), 151 PR2D (io), 152 PR1A/~{WR} (io), 153 PR1C (io), 154 PR1D (io), 156 ~{RD_CFG} (in), 159 PT12D (io), 160 PT12A/RDY/RCLK (io), 161 PT11D (io), 162 PT11C (io), 163 PT11A/D7 (io), 164 PT10D (io), 165 PT10C (io), 166 PT10B (io), 167 PT10A/D6 (io), 169 PT9D (io), 170 PT9C (io), 171 PT9B (io), 172 PT9A/D5 (io), 173 PT8D (io), 174 PT8C (io), 175 PT8B (io), 176 PT8A/D4 (io), 178 PT7D (io), 179 PT7C (io), 180 PT7B (io), 181 PT7A/D3 (io), 183 PT6D (io), 184 PT6C (io), 185 PT6B (io), 186 PT6A/D2 (io), 188 PT5D/D1 (io), 189 PT5C (io), 190 PT5B (io), 191 PT5A/D0/DIN (io), 192 PT4D (io), 193 PT4C (io), 194 PT4B (io), 195 PT4A/DOUT (io), 197 PT3D (io), 198 PT3C (io), 199 PT3B (io), 200 PT3A/TDI (io), 201 PT2D (io), 202 PT2A/TMS (io), 203 PT1D (io), 204 PT1C (io), 205 PT1B (io), 206 PT1A/TCK (io), 208 RD_DATA/TDO (out)
part B pins: 1 VSS (power), 2 VSS (power), 12 VDD (power), 21 VSS (power), 26 VDD (power), 31 VSS (power), 40 VDD (power), 51 VSS (power), 53 VSS (power), 54 VSS (power), 65 VDD (power), 74 VSS (power), 79 VSS (power), 84 VSS (power), 93 VDD (power), 103 VSS (power), 105 VSS (power), 116 VDD (power), 125 VSS (power), 130 VDD (power), 135 VSS (power), 144 VDD (power), 155 VSS (power), 157 VSS (power), 158 VSS (power), 168 VDD (power), 177 VSS (power), 182 VSS (power), 187 VSS (power), 196 VDD (power), 207 VSS (power)

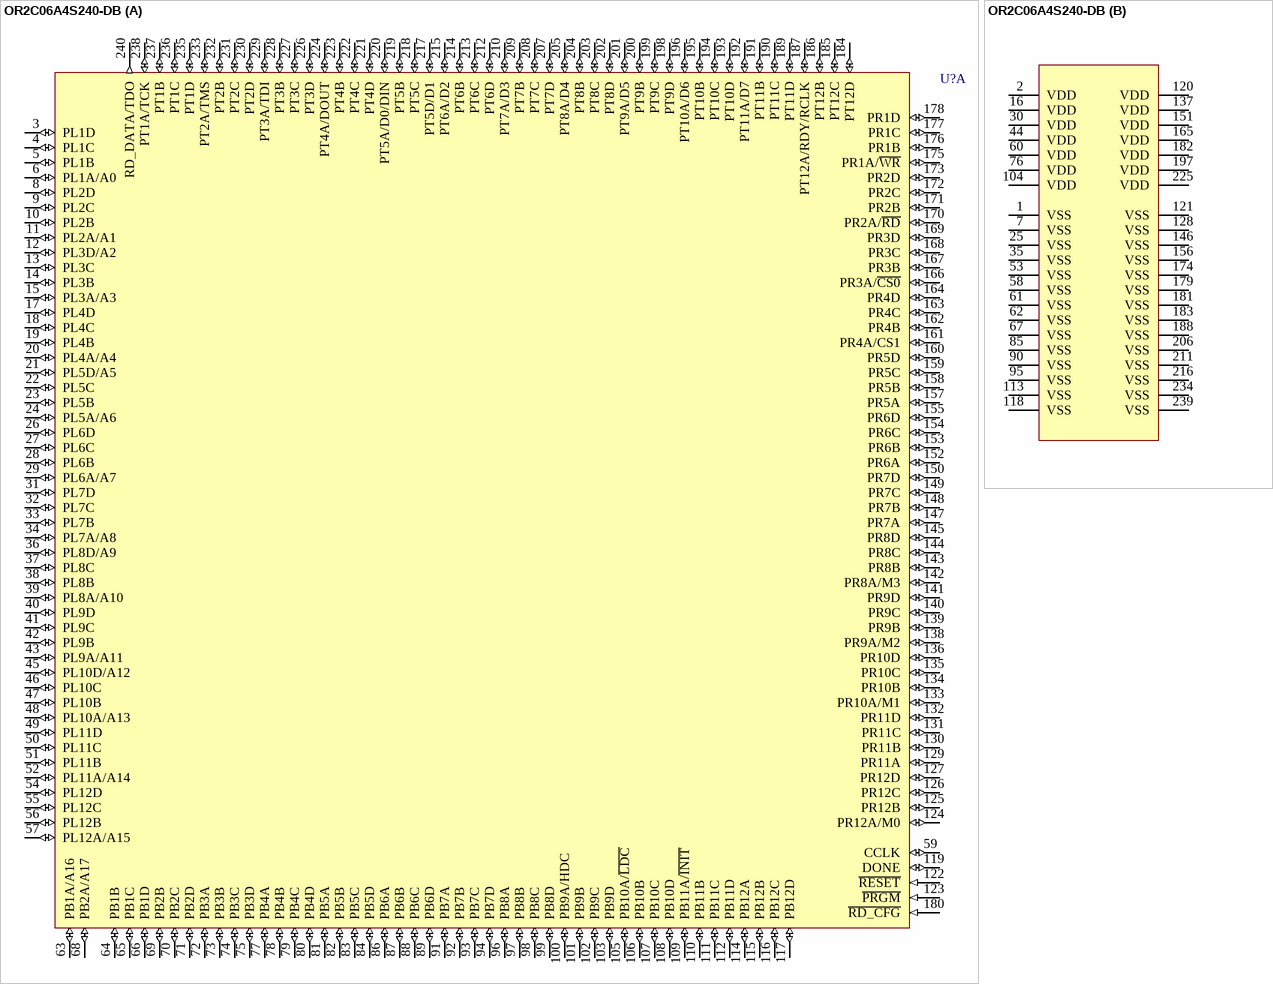
[diagram p11: symbol OR2C06A4S240-DB]

## OR2C06A4S240-DB
designator U?
ORCA Series 2C FPGA: 5.0 V, Commercial Grade, 192 User I/Os.; Published: 21-May-2003; LatestRevisionDate: 13-Apr-2006; LatestRevisionNote: IPC-7351 Footprint Added.; DatasheetVersion: Jan-2003; PackageVersion: pkg_32, Aug-2005; PackageReference: PQFP240; Publisher: Altium Limited; PackageDescription: 240-Pin Shrink Quad Flat Pack 0.5 mm Pitch; ComponentLink1Description: Manufacturer Link; ComponentLink1URL: http://www.latticesemi.com/products/fpga/orca/orca2/index.cfm; ComponentLink2Description: Datasheet; ComponentLink2URL: http://www.latticesemi.com/lit/docs/datasheets/fpga/ds99-094fpga.pdf; ComponentLink3Description: Lattice Login; ComponentLink3URL: http://www.latticesemi.com/account/login.cfm
footprint PQFP240_N (Shrink QFP, 240-Leads, Body 32x32mm, Pitch 0.5mm, IPC Medium Density)
footprint PQFP240_L (Shrink QFP, 240-Leads, Body 32x32mm, Pitch 0.5mm, IPC High Density)
footprint PQFP240_M (Shrink QFP, 240-Leads, Body 32x32mm, Pitch 0.5mm, IPC Low Density)
3D model OR2C06A-PQFP240 (240-Pin Shrink Quad Flat Pack 0.5 mm Pitch)
part A pins: 3 PL1D (io), 4 PL1C (io), 5 PL1B (io), 6 PL1A/A0 (io), 8 PL2D (io), 9 PL2C (io), 10 PL2B (io), 11 PL2A/A1 (io), 12 PL3D/A2 (io), 13 PL3C (io), 14 PL3B (io), 15 PL3A/A3 (io), 17 PL4D (io), 18 PL4C (io), 19 PL4B (io), 20 PL4A/A4 (io), 21 PL5D/A5 (io), 22 PL5C (io), 23 PL5B (io), 24 PL5A/A6 (io), 26 PL6D (io), 27 PL6C (io), 28 PL6B (io), 29 PL6A/A7 (io), 31 PL7D (io), 32 PL7C (io), 33 PL7B (io), 34 PL7A/A8 (io), 36 PL8D/A9 (io), 37 PL8C (io), 38 PL8B (io), 39 PL8A/A10 (io), 40 PL9D (io), 41 PL9C (io), 42 PL9B (io), 43 PL9A/A11 (io), 45 PL10D/A12 (io), 46 PL10C (io), 47 PL10B (io), 48 PL10A/A13 (io), 49 PL11D (io), 50 PL11C (io), 51 PL11B (io), 52 PL11A/A14 (io), 54 PL12D (io), 55 PL12C (io), 56 PL12B (io), 57 PL12A/A15 (io), 59 CCLK (io), 63 PB1A/A16 (io), 64 PB1B (io), 65 PB1C (io), 66 PB1D (io), 68 PB2A/A17 (io), 69 PB2B (io), 70 PB2C (io), 71 PB2D (io), 72 PB3A (io), 73 PB3B (io), 74 PB3C (io), 75 PB3D (io), 77 PB4A (io), 78 PB4B (io), 79 PB4C (io), 80 PB4D (io), 81 PB5A (io), 82 PB5B (io), 83 PB5C (io), 84 PB5D (io), 86 PB6A (io), 87 PB6B (io), 88 PB6C (io), 89 PB6D (io), 91 PB7A (io), 92 PB7B (io), 93 PB7C (io), 94 PB7D (io), 96 PB8A (io), 97 PB8B (io), 98 PB8C (io), 99 PB8D (io), 100 PB9A/HDC (io), 101 PB9B (io), 102 PB9C (io), 103 PB9D (io), 105 PB10A/~{LDC} (io), 106 PB10B (io), 107 PB10C (io), 108 PB10D (io), 109 PB11A/~{INIT} (io), 110 PB11B (io), 111 PB11C (io), 112 PB11D (io), 114 PB12A (io), 115 PB12B (io), 116 PB12C (io), 117 PB12D (io), 119 DONE (io), 122 ~{RESET} (in), 123 ~{PRGM} (in), 124 PR12A/M0 (io), 125 PR12B (io), 126 PR12C (io), 127 PR12D (io), 129 PR11A (io), 130 PR11B (io), 131 PR11C (io), 132 PR11D (io), 133 PR10A/M1 (io), 134 PR10B (io), 135 PR10C (io), 136 PR10D (io), 138 PR9A/M2 (io), 139 PR9B (io), 140 PR9C (io), 141 PR9D (io), 142 PR8A/M3 (io), 143 PR8B (io), 144 PR8C (io), 145 PR8D (io), 147 PR7A (io), 148 PR7B (io), 149 PR7C (io), 150 PR7D (io), 152 PR6A (io), 153 PR6B (io), 154 PR6C (io), 155 PR6D (io), 157 PR5A (io), 158 PR5B (io), 159 PR5C (io), 160 PR5D (io), 161 PR4A/CS1 (io), 162 PR4B (io), 163 PR4C (io), 164 PR4D (io), 166 PR3A/~{CS0} (io), 167 PR3B (io), 168 PR3C (io), 169 PR3D (io), 170 PR2A/~{RD} (io), 171 PR2B (io), 172 PR2C (io), 173 PR2D (io), 175 PR1A/~{WR} (io), 176 PR1B (io), 177 PR1C (io), 178 PR1D (io), 180 ~{RD_CFG} (in), 184 PT12D (io), 185 PT12C (io), 186 PT12B (io), 187 PT12A/RDY/RCLK (io), 189 PT11D (io), 190 PT11C (io), 191 PT11B (io), 192 PT11A/D7 (io), 193 PT10D (io), 194 PT10C (io), 195 PT10B (io), 196 PT10A/D6 (io), 198 PT9D (io), 199 PT9C (io), 200 PT9B (io), 201 PT9A/D5 (io), 202 PT8D (io), 203 PT8C (io), 204 PT8B (io), 205 PT8A/D4 (io), 207 PT7D (io), 208 PT7C (io), 209 PT7B (io), 210 PT7A/D3 (io), 212 PT6D (io), 213 PT6C (io), 214 PT6B (io), 215 PT6A/D2 (io), 217 PT5D/D1 (io), 218 PT5C (io), 219 PT5B (io), 220 PT5A/D0/DIN (io), 221 PT4D (io), 222 PT4C (io), 223 PT4B (io), 224 PT4A/DOUT (io), 226 PT3D (io), 227 PT3C (io), 228 PT3B (io), 229 PT3A/TDI (io), 230 PT2D (io), 231 PT2C (io), 232 PT2B (io), 233 PT2A/TMS (io), 235 PT1D (io), 236 PT1C (io), 237 PT1B (io), 238 PT1A/TCK (io), 240 RD_DATA/TDO (out)
part B pins: 1 VSS (power), 2 VDD (power), 7 VSS (power), 16 VDD (power), 25 VSS (power), 30 VDD (power), 35 VSS (power), 44 VDD (power), 53 VSS (power), 58 VSS (power), 60 VDD (power), 61 VSS (power), 62 VSS (power), 67 VSS (power), 76 VDD (power), 85 VSS (power), 90 VSS (power), 95 VSS (power), 104 VDD (power), 113 VSS (power), 118 VSS (power), 120 VDD (power), 121 VSS (power), 128 VSS (power), 137 VDD (power), 146 VSS (power), 151 VDD (power), 156 VSS (power), 165 VDD (power), 174 VSS (power), 179 VSS (power), 181 VSS (power), 182 VDD (power), 183 VSS (power), 188 VSS (power), 197 VDD (power), 206 VSS (power), 211 VSS (power), 216 VSS (power), 225 VDD (power), 234 VSS (power), 239 VSS (power)

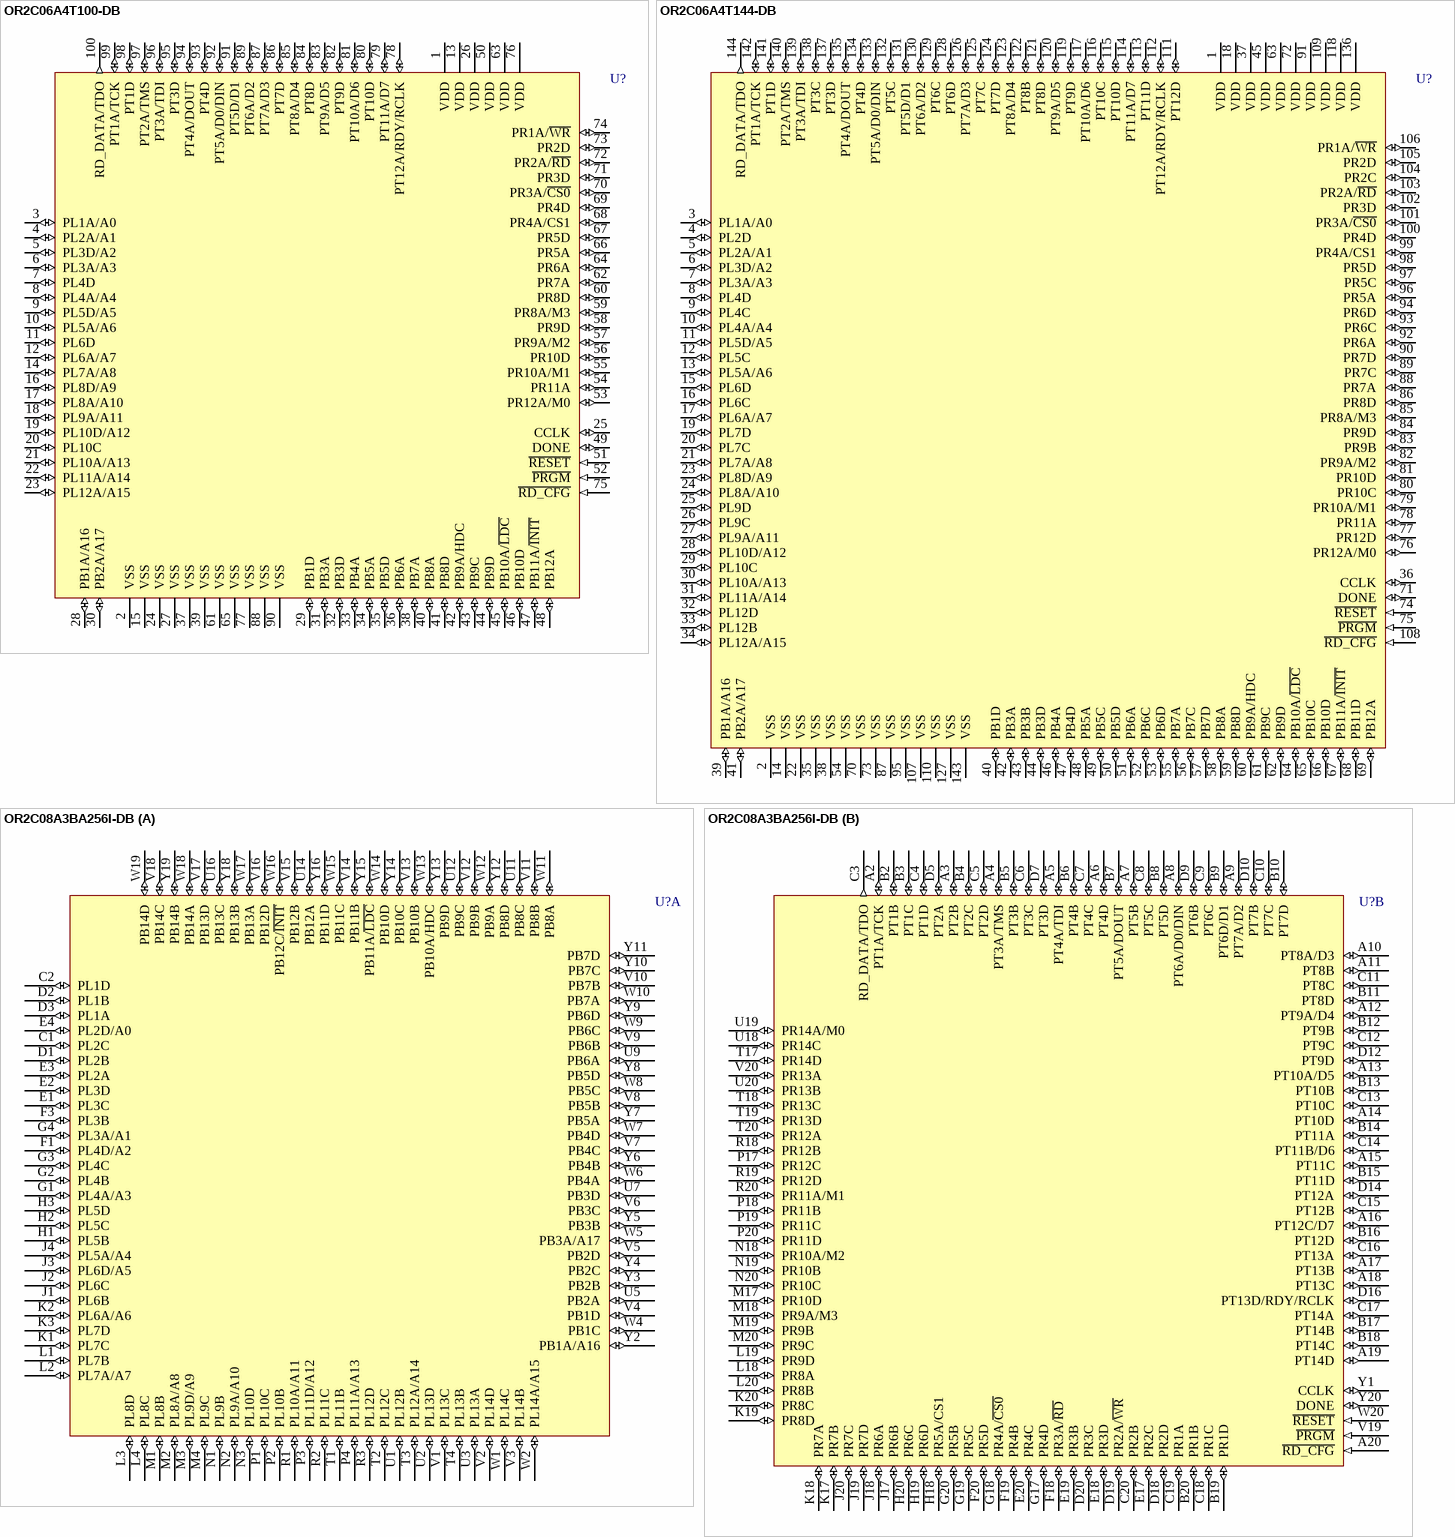
[diagram p12: symbols OR2C06A4T100-DB to OR2C08A3BA256I-DB]

## OR2C06A4T100-DB
designator U?
ORCA Series 2C FPGA: 5.0 V, Commercial Grade, 192 User I/Os.; Published: 21-May-2003; LatestRevisionDate: 13-Apr-2006; LatestRevisionNote: IPC-7351 Footprint Added.; DatasheetVersion: Jan-2003; PackageVersion: pkg_32, Aug-2005; PackageReference: TQFP100; Publisher: Altium Limited; PackageDescription: 100-Pin Thin Quad Flat Pack (TQFP100); Code_JEDEC: MS-026-BED; ComponentLink1Description: Manufacturer Link; ComponentLink1URL: http://www.latticesemi.com/products/fpga/orca/orca2/index.cfm; ComponentLink2Description: Datasheet; ComponentLink2URL: http://www.latticesemi.com/lit/docs/datasheets/fpga/ds99-094fpga.pdf; ComponentLink3Description: Lattice Login; ComponentLink3URL: http://www.latticesemi.com/account/login.cfm
footprint TQFP100_N (Thin QFP, 100-Leads, Body 14x14mm, Pitch 0.5mm, IPC Medium Density)
footprint TQFP100_L (Thin QFP, 100-Leads, Body 14x14mm, Pitch 0.5mm, IPC High Density)
footprint TQFP100_M (Thin QFP, 100-Leads, Body 14x14mm, Pitch 0.5mm, IPC Low Density)
3D model OR2C06A-TQFP100 (100-Pin Thin Quad Flat Pack (TQFP100))
pins: 1 VDD (power), 2 VSS (power), 3 PL1A/A0 (io), 4 PL2A/A1 (io), 5 PL3D/A2 (io), 6 PL3A/A3 (io), 7 PL4D (io), 8 PL4A/A4 (io), 9 PL5D/A5 (io), 10 PL5A/A6 (io), 11 PL6D (io), 12 PL6A/A7 (io), 13 VDD (power), 14 PL7A/A8 (io), 15 VSS (power), 16 PL8D/A9 (io), 17 PL8A/A10 (io), 18 PL9A/A11 (io), 19 PL10D/A12 (io), 20 PL10C (io), 21 PL10A/A13 (io), 22 PL11A/A14 (io), 23 PL12A/A15 (io), 24 VSS (power), 25 CCLK (io), 26 VDD (power), 27 VSS (power), 28 PB1A/A16 (io), 29 PB1D (io), 30 PB2A/A17 (io), 31 PB3A (io), 32 PB3D (io), 33 PB4A (io), 34 PB5A (io), 35 PB5D (io), 36 PB6A (io), 37 VSS (power), 38 PB7A (io), 39 VSS (power), 40 PB8A (io), 41 PB8D (io), 42 PB9A/HDC (io), 43 PB9C (io), 44 PB9D (io), 45 PB10A/~{LDC} (io), 46 PB10D (io), 47 PB11A/~{INIT} (io), 48 PB12A (io), 49 DONE (io), 50 VDD (power), 51 ~{RESET} (in), 52 ~{PRGM} (in), 53 PR12A/M0 (io), 54 PR11A (io), 55 PR10A/M1 (io), 56 PR10D (io), 57 PR9A/M2 (io), 58 PR9D (io), 59 PR8A/M3 (io), 60 PR8D (io), 61 VSS (power), 62 PR7A (io), 63 VDD (power), 64 PR6A (io), 65 VSS (power), 66 PR5A (io), 67 PR5D (io), 68 PR4A/CS1 (io), 69 PR4D (io), 70 PR3A/~{CS0} (io), 71 PR3D (io), 72 PR2A/~{RD} (io), 73 PR2D (io), 74 PR1A/~{WR} (io), 75 ~{RD_CFG} (in), 76 VDD (power), 77 VSS (power), 78 PT12A/RDY/RCLK (io), 79 PT11A/D7 (io), 80 PT10D (io), 81 PT10A/D6 (io), 82 PT9D (io), 83 PT9A/D5 (io), 84 PT8D (io), 85 PT8A/D4 (io), 86 PT7D (io), 87 PT7A/D3 (io), 88 VSS (power), 89 PT6A/D2 (io), 90 VSS (power), 91 PT5D/D1 (io), 92 PT5A/D0/DIN (io), 93 PT4D (io), 94 PT4A/DOUT (io), 95 PT3D (io), 96 PT3A/TDI (io), 97 PT2A/TMS (io), 98 PT1D (io), 99 PT1A/TCK (io), 100 RD_DATA/TDO (out)

## OR2C06A4T144-DB
designator U?
ORCA Series 2C FPGA: 5.0 V, Commercial Grade, 192 User I/Os.; Published: 21-May-2003; LatestRevisionDate: 13-Apr-2006; LatestRevisionNote: IPC-7351 Footprint Added.; DatasheetVersion: Jan-2003; PackageVersion: pkg_32, Aug-2005; PackageReference: TQFP144; Publisher: Altium Limited; PackageDescription: 144-Pin Thin Quad Flat Pack (TQFP144); Code_JEDEC: MS-026-BFB; ComponentLink1Description: Manufacturer Link; ComponentLink1URL: http://www.latticesemi.com/products/fpga/orca/orca2/index.cfm; ComponentLink2Description: Datasheet; ComponentLink2URL: http://www.latticesemi.com/lit/docs/datasheets/fpga/ds99-094fpga.pdf; ComponentLink3Description: Lattice Login; ComponentLink3URL: http://www.latticesemi.com/account/login.cfm
footprint TQFP144_N (Thin QFP, 144-Leads, Body 20x20mm, Pitch 0.5mm, IPC Medium Density)
footprint TQFP144_L (Thin QFP, 144-Leads, Body 20x20mm, Pitch 0.5mm, IPC High Density)
footprint TQFP144_M (Thin QFP, 144-Leads, Body 20x20mm, Pitch 0.5mm, IPC Low Density)
3D model OR2C06A-TQFP144 (144-Pin Thin Quad Flat Pack (TQFP144))
pins: 1 VDD (power), 2 VSS (power), 3 PL1A/A0 (io), 4 PL2D (io), 5 PL2A/A1 (io), 6 PL3D/A2 (io), 7 PL3A/A3 (io), 8 PL4D (io), 9 PL4C (io), 10 PL4A/A4 (io), 11 PL5D/A5 (io), 12 PL5C (io), 13 PL5A/A6 (io), 14 VSS (power), 15 PL6D (io), 16 PL6C (io), 17 PL6A/A7 (io), 18 VDD (power), 19 PL7D (io), 20 PL7C (io), 21 PL7A/A8 (io), 22 VSS (power), 23 PL8D/A9 (io), 24 PL8A/A10 (io), 25 PL9D (io), 26 PL9C (io), 27 PL9A/A11 (io), 28 PL10D/A12 (io), 29 PL10C (io), 30 PL10A/A13 (io), 31 PL11A/A14 (io), 32 PL12D (io), 33 PL12B (io), 34 PL12A/A15 (io), 35 VSS (power), 36 CCLK (io), 37 VDD (power), 38 VSS (power), 39 PB1A/A16 (io), 40 PB1D (io), 41 PB2A/A17 (io), 42 PB3A (io), 43 PB3B (io), 44 PB3D (io), 45 VDD (power), 46 PB4A (io), 47 PB4D (io), 48 PB5A (io), 49 PB5C (io), 50 PB5D (io), 51 PB6A (io), 52 PB6C (io), 53 PB6D (io), 54 VSS (power), 55 PB7A (io), 56 PB7C (io), 57 PB7D (io), 58 PB8A (io), 59 PB8D (io), 60 PB9A/HDC (io), 61 PB9C (io), 62 PB9D (io), 63 VDD (power), 64 PB10A/~{LDC} (io), 65 PB10C (io), 66 PB10D (io), 67 PB11A/~{INIT} (io), 68 PB11D (io), 69 PB12A (io), 70 VSS (power), 71 DONE (io), 72 VDD (power), 73 VSS (power), 74 ~{RESET} (in), 75 ~{PRGM} (in), 76 PR12A/M0 (io), 77 PR12D (io), 78 PR11A (io), 79 PR10A/M1 (io), 80 PR10C (io), 81 PR10D (io), 82 PR9A/M2 (io), 83 PR9B (io), 84 PR9D (io), 85 PR8A/M3 (io), 86 PR8D (io), 87 VSS (power), 88 PR7A (io), 89 PR7C (io), 90 PR7D (io), 91 VDD (power), 92 PR6A (io), 93 PR6C (io), 94 PR6D (io), 95 VSS (power), 96 PR5A (io), 97 PR5C (io), 98 PR5D (io), 99 PR4A/CS1 (io), 100 PR4D (io), 101 PR3A/~{CS0} (io), 102 PR3D (io), 103 PR2A/~{RD} (io), 104 PR2C (io), 105 PR2D (io), 106 PR1A/~{WR} (io), 107 VSS (power), 108 ~{RD_CFG} (in), 109 VDD (power), 110 VSS (power), 111 PT12D (io), 112 PT12A/RDY/RCLK (io), 113 PT11D (io), 114 PT11A/D7 (io), 115 PT10D (io), 116 PT10C (io), 117 PT10A/D6 (io), 118 VDD (power), 119 PT9D (io), 120 PT9A/D5 (io), 121 PT8D (io), 122 PT8B (io), 123 PT8A/D4 (io), 124 PT7D (io), 125 PT7C (io), 126 PT7A/D3 (io), 127 VSS (power), 128 PT6D (io), 129 PT6C (io), 130 PT6A/D2 (io), 131 PT5D/D1 (io), 132 PT5C (io), 133 PT5A/D0/DIN (io), 134 PT4D (io), 135 PT4A/DOUT (io), 136 VDD (power), 137 PT3D (io), 138 PT3C (io), 139 PT3A/TDI (io), 140 PT2A/TMS (io), 141 PT1D (io), 142 PT1A/TCK (io), 143 VSS (power), 144 RD_DATA/TDO (out)

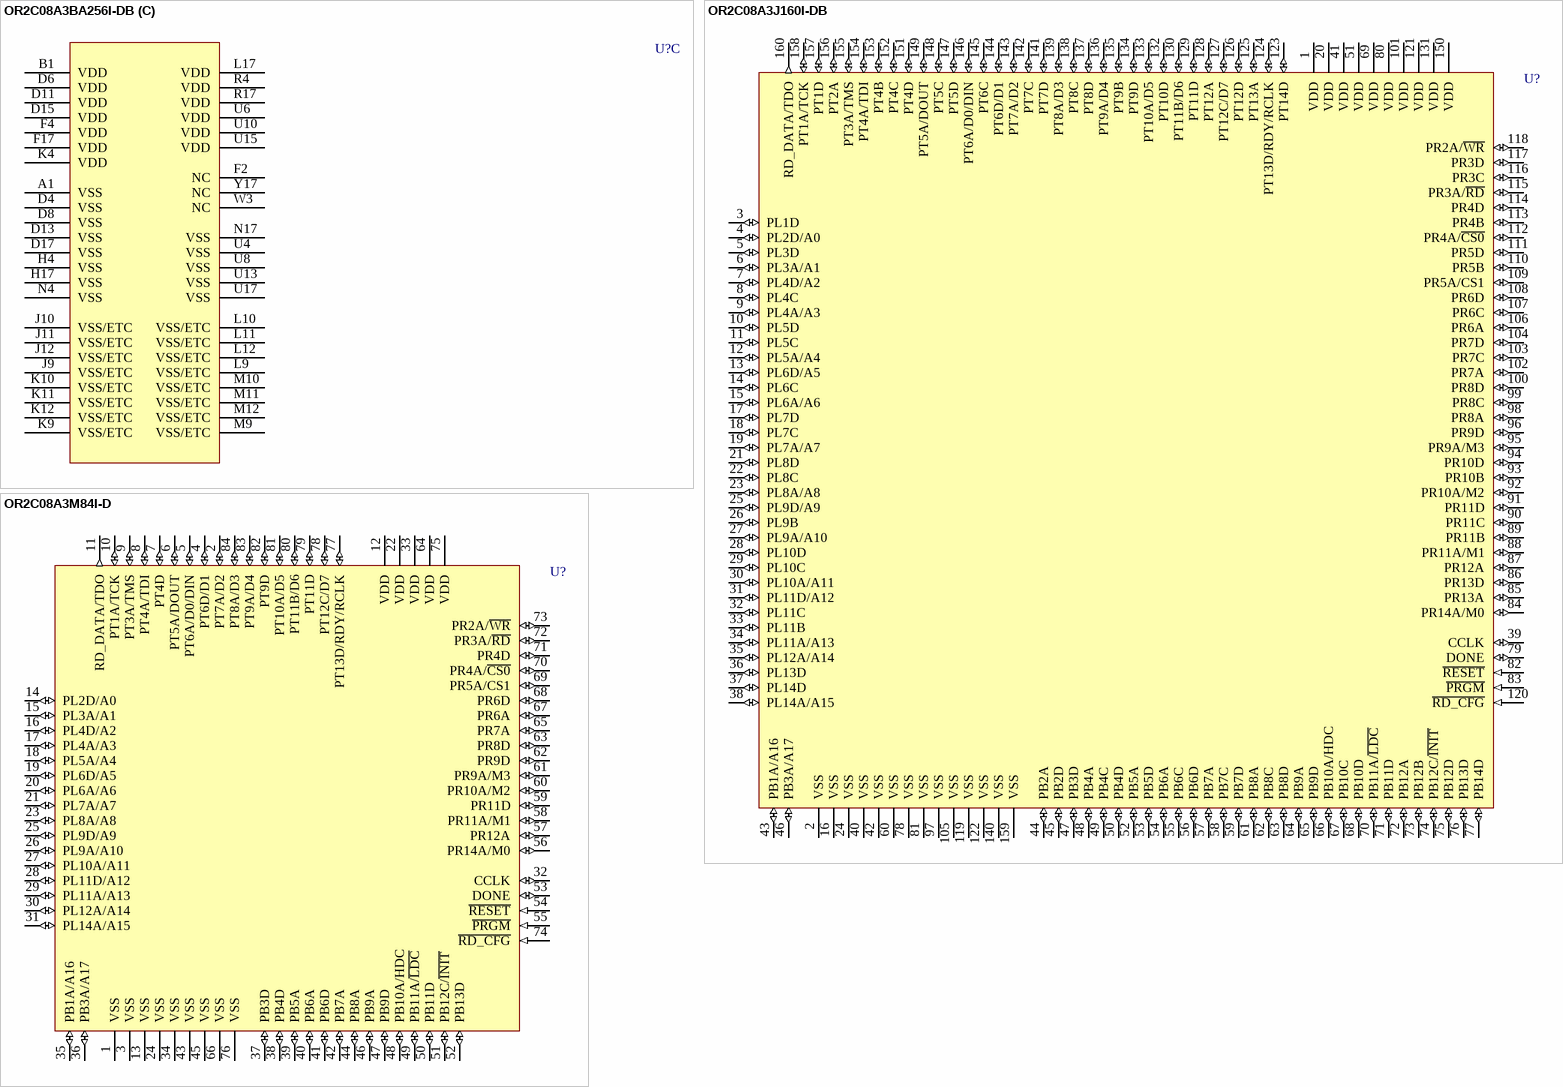
[diagram p13: symbols OR2C08A3BA256I-DB to OR2C08A3M84I-D]

## OR2C08A3BA256I-DB
designator U?
ORCA Series 2C FPGA: 5.0 V, Industrial Grade, 224 User I/Os.; PinConnectionRecommendation: Ground array of 'VSS-ETC' pins for enhanced thermal capability or leave unconnected.; Published: 21-May-2003; LatestRevisionDate: 13-Apr-2006; LatestRevisionNote: IPC-7351 Footprint Added.; DatasheetVersion: Jan-2003; PackageVersion: pkg_32, Aug-2005; PackageReference: BGA272; Publisher: Altium Limited; PackageDescription: 272-Ball Ball Grid Array (BGA272); ComponentLink1Description: Manufacturer Link; ComponentLink1URL: http://www.latticesemi.com/products/fpga/orca/orca2/index.cfm; ComponentLink2Description: Datasheet; ComponentLink2URL: http://www.latticesemi.com/lit/docs/datasheets/fpga/ds99-094fpga.pdf; ComponentLink3Description: Lattice Login; ComponentLink3URL: http://www.latticesemi.com/account/login.cfm
footprint BGA272 (BGA, 272-Leads, Body 27x27mm, Pitch 1.27mm)
3D model OR2C08A-BGA272 (272-Ball Ball Grid Array (BGA272))
part A pins: C1 PL2C (io), C2 PL1D (io), D1 PL2B (io), D2 PL1B (io), D3 PL1A (io), E1 PL3C (io), E2 PL3D (io), E3 PL2A (io), E4 PL2D/A0 (io), F1 PL4D/A2 (io), F3 PL3B (io), G1 PL4A/A3 (io), G2 PL4B (io), G3 PL4C (io), G4 PL3A/A1 (io), H1 PL5B (io), H2 PL5C (io), H3 PL5D (io), J1 PL6B (io), J2 PL6C (io), J3 PL6D/A5 (io), J4 PL5A/A4 (io), K1 PL7C (io), K2 PL6A/A6 (io), K3 PL7D (io), L1 PL7B (io), L2 PL7A/A7 (io), L3 PL8D (io), L4 PL8C (io), M1 PL8B (io), M2 PL8A/A8 (io), M3 PL9D/A9 (io), M4 PL9C (io), N1 PL9B (io), N2 PL9A/A10 (io), N3 PL10D (io), P1 PL10C (io), P2 PL10B (io), P3 PL11D/A12 (io), P4 PL11A/A13 (io), R1 PL10A/A11 (io), R2 PL11C (io), R3 PL12D (io), T1 PL11B (io), T2 PL12C (io), T3 PL12A/A14 (io), T4 PL13B (io), U1 PL12B (io), U2 PL13D (io), U3 PL13A (io), U5 PB2A (io), U7 PB3D (io), U9 PB6A (io), U11 PB8C (io), U12 PB9C (io), U14 PB12A (io), U16 PB13C (io), V1 PL13C (io), V2 PL14D (io), V3 PL14B (io), V4 PB1D (io), V5 PB2D (io), V6 PB3C (io), V7 PB4C (io), V8 PB5B (io), V9 PB6B (io), V10 PB7B (io), V11 PB8B (io), V12 PB9B (io), V13 PB10B (io), V14 PB11B (io), V15 PB12B (io), V16 PB12D (io), V17 PB13D (io), V18 PB14C (io), W1 PL14C (io), W2 PL14A/A15 (io), W4 PB1C (io), W5 PB3A/A17 (io), W6 PB4A (io), W7 PB4D (io), W8 PB5C (io), W9 PB6C (io), W10 PB7A (io), W11 PB8A (io), W12 PB9A (io), W13 PB10A/HDC (io), W14 PB10D (io), W15 PB11C (io), W16 PB12C/~{INIT} (io), W17 PB13A (io), W18 PB14A (io), W19 PB14D (io), Y2 PB1A/A16 (io), Y3 PB2B (io), Y4 PB2C (io), Y5 PB3B (io), Y6 PB4B (io), Y7 PB5A (io), Y8 PB5D (io), Y9 PB6D (io), Y10 PB7C (io), Y11 PB7D (io), Y12 PB8D (io), Y13 PB9D (io), Y14 PB10C (io), Y15 PB11A/~{LDC} (io), Y16 PB11D (io), Y18 PB13B (io), Y19 PB14B (io)
part B pins: A2 PT1A/TCK (io), A3 PT2B (io), A4 PT3A/TMS (io), A5 PT4A/TDI (io), A6 PT4D (io), A7 PT5B (io), A8 PT6A/D0/DIN (io), A9 PT7A/D2 (io), A10 PT8A/D3 (io), A11 PT8B (io), A12 PT9A/D4 (io), A13 PT10A/D5 (io), A14 PT10D (io), A15 PT11C (io), A16 PT12C/D7 (io), A17 PT13B (io), A18 PT13C (io), A19 PT14D (io), A20 ~{RD_CFG} (in), B2 PT1B (io), B3 PT1C (io), B4 PT2C (io), B5 PT3B (io), B6 PT4B (io), B7 PT5A/DOUT (io), B8 PT5D (io), B9 PT6D/D1 (io), B10 PT7D (io), B11 PT8D (io), B12 PT9B (io), B13 PT10B (io), B14 PT11A (io), B15 PT11D (io), B16 PT12D (io), B17 PT14B (io), B18 PT14C (io), B19 PR1D (io), B20 PR1B (io), C3 RD_DATA/TDO (out), C4 PT1D (io), C5 PT2D (io), C6 PT3C (io), C7 PT4C (io), C8 PT5C (io), C9 PT6C (io), C10 PT7C (io), C11 PT8C (io), C12 PT9C (io), C13 PT10C (io), C14 PT11B/D6 (io), C15 PT12B (io), C16 PT13A (io), C17 PT14A (io), C18 PR1C (io), C19 PR1A (io), C20 PR2B (io), D5 PT2A (io), D7 PT3D (io), D9 PT6B (io), D10 PT7B (io), D12 PT9D (io), D14 PT12A (io), D16 PT13D/RDY/RCLK (io), D18 PR2D (io), D19 PR2A/~{WR} (io), D20 PR3C (io), E17 PR2C (io), E18 PR3D (io), E19 PR3B (io), E20 PR4C (io), F18 PR3A/~{RD} (io), F19 PR4B (io), F20 PR5D (io), G17 PR4D (io), G18 PR4A/~{CS0} (io), G19 PR5C (io), G20 PR5B (io), H18 PR5A/CS1 (io), H19 PR6D (io), H20 PR6C (io), J17 PR6B (io), J18 PR6A (io), J19 PR7D (io), J20 PR7C (io), K17 PR7B (io), K18 PR7A (io), K19 PR8D (io), K20 PR8C (io), L18 PR8A (io), L19 PR9D (io), L20 PR8B (io), M17 PR10D (io), M18 PR9A/M3 (io), M19 PR9B (io), M20 PR9C (io), N18 PR10A/M2 (io), N19 PR10B (io), N20 PR10C (io), P17 PR12C (io), P18 PR11B (io), P19 PR11C (io), P20 PR11D (io), R18 PR12B (io), R19 PR12D (io), R20 PR11A/M1 (io), T17 PR14D (io), T18 PR13C (io), T19 PR13D (io), T20 PR12A (io), U18 PR14C (io), U19 PR14A/M0 (io), U20 PR13B (io), V19 ~{PRGM} (in), V20 PR13A (io), W20 ~{RESET} (in), Y1 CCLK (io), Y20 DONE (io)
part C pins: A1 VSS (power), B1 VDD (power), D4 VSS (power), D6 VDD (power), D8 VSS (power), D11 VDD (power), D13 VSS (power), D15 VDD (power), D17 VSS (power), F2 NC, F4 VDD (power), F17 VDD (power), H4 VSS (power), H17 VSS (power), J9 VSS/ETC (power), J10 VSS/ETC (power), J11 VSS/ETC (power), J12 VSS/ETC (power), K4 VDD (power), K9 VSS/ETC (power), K10 VSS/ETC (power), K11 VSS/ETC (power), K12 VSS/ETC (power), L9 VSS/ETC (power), L10 VSS/ETC (power), L11 VSS/ETC (power), L12 VSS/ETC (power), L17 VDD (power), M9 VSS/ETC (power), M10 VSS/ETC (power), M11 VSS/ETC (power), M12 VSS/ETC (power), N4 VSS (power), N17 VSS (power), R4 VDD (power), R17 VDD (power), U4 VSS (power), U6 VDD (power), U8 VSS (power), U10 VDD (power), U13 VSS (power), U15 VDD (power), U17 VSS (power), W3 NC, Y17 NC

## OR2C08A3J160I-DB
designator U?
ORCA Series 2C FPGA: 5.0 V, Industrial Grade, 224 User I/Os.; Published: 21-May-2003; LatestRevisionDate: 13-Apr-2006; LatestRevisionNote: IPC-7351 Footprint Added.; DatasheetVersion: Jan-2003; PackageVersion: pkg_32, Aug-2005; PackageReference: PQFP160; Publisher: Altium Limited; PackageDescription: 160-Pin Quad Flat Pack 0.65 mm Pitch; Code_IPC: QFP65P3120X3120-160; ComponentLink1Description: Manufacturer Link; ComponentLink1URL: http://www.latticesemi.com/products/fpga/orca/orca2/index.cfm; ComponentLink2Description: Datasheet; ComponentLink2URL: http://www.latticesemi.com/lit/docs/datasheets/fpga/ds99-094fpga.pdf; ComponentLink3Description: Lattice Login; ComponentLink3URL: http://www.latticesemi.com/account/login.cfm
footprint PQFP160_N (QFP, 160-Leads, Body 28 x 28mm, Pitch 0.65mm, IPC Medium Density)
footprint PQFP160_L (QFP, 160-Leads, Body 28 x 28mm, Pitch 0.65mm, IPC High Density)
footprint PQFP160_M (QFP, 160-Leads, Body 28 x 28mm, Pitch 0.65mm, IPC Low Density)
3D model OR2C08A-PQFP160 (160-Pin Quad Flat Pack 0.65 mm Pitch)
pins: 1 VDD (power), 2 VSS (power), 3 PL1D (io), 4 PL2D/A0 (io), 5 PL3D (io), 6 PL3A/A1 (io), 7 PL4D/A2 (io), 8 PL4C (io), 9 PL4A/A3 (io), 10 PL5D (io), 11 PL5C (io), 12 PL5A/A4 (io), 13 PL6D/A5 (io), 14 PL6C (io), 15 PL6A/A6 (io), 16 VSS (power), 17 PL7D (io), 18 PL7C (io), 19 PL7A/A7 (io), 20 VDD (power), 21 PL8D (io), 22 PL8C (io), 23 PL8A/A8 (io), 24 VSS (power), 25 PL9D/A9 (io), 26 PL9B (io), 27 PL9A/A10 (io), 28 PL10D (io), 29 PL10C (io), 30 PL10A/A11 (io), 31 PL11D/A12 (io), 32 PL11C (io), 33 PL11B (io), 34 PL11A/A13 (io), 35 PL12A/A14 (io), 36 PL13D (io), 37 PL14D (io), 38 PL14A/A15 (io), 39 CCLK (io), 40 VSS (power), 41 VDD (power), 42 VSS (power), 43 PB1A/A16 (io), 44 PB2A (io), 45 PB2D (io), 46 PB3A/A17 (io), 47 PB3D (io), 48 PB4A (io), 49 PB4C (io), 50 PB4D (io), 51 VDD (power), 52 PB5A (io), 53 PB5D (io), 54 PB6A (io), 55 PB6C (io), 56 PB6D (io), 57 PB7A (io), 58 PB7C (io), 59 PB7D (io), 60 VSS (power), 61 PB8A (io), 62 PB8C (io), 63 PB8D (io), 64 PB9A (io), 65 PB9D (io), 66 PB10A/HDC (io), 67 PB10C (io), 68 PB10D (io), 69 VDD (power), 70 PB11A/~{LDC} (io), 71 PB11D (io), 72 PB12A (io), 73 PB12B (io), 74 PB12C/~{INIT} (io), 75 PB12D (io), 76 PB13D (io), 77 PB14D (io), 78 VSS (power), 79 DONE (io), 80 VDD (power), 81 VSS (power), 82 ~{RESET} (in), 83 ~{PRGM} (in), 84 PR14A/M0 (io), 85 PR13A (io), 86 PR13D (io), 87 PR12A (io), 88 PR11A/M1 (io), 89 PR11B (io), 90 PR11C (io), 91 PR11D (io), 92 PR10A/M2 (io), 93 PR10B (io), 94 PR10D (io), 95 PR9A/M3 (io), 96 PR9D (io), 97 VSS (power), 98 PR8A (io), 99 PR8C (io), 100 PR8D (io), 101 VDD (power), 102 PR7A (io), 103 PR7C (io), 104 PR7D (io), 105 VSS (power), 106 PR6A (io), 107 PR6C (io), 108 PR6D (io), 109 PR5A/CS1 (io), 110 PR5B (io), 111 PR5D (io), 112 PR4A/~{CS0} (io), 113 PR4B (io), 114 PR4D (io), 115 PR3A/~{RD} (io), 116 PR3C (io), 117 PR3D (io), 118 PR2A/~{WR} (io), 119 VSS (power), 120 ~{RD_CFG} (in), 121 VDD (power), 122 VSS (power), 123 PT14D (io), 124 PT13D/RDY/RCLK (io), 125 PT13A (io), 126 PT12D (io), 127 PT12C/D7 (io), 128 PT12A (io), 129 PT11D (io), 130 PT11B/D6 (io), 131 VDD (power), 132 PT10D (io), 133 PT10A/D5 (io), 134 PT9D (io), 135 PT9B (io), 136 PT9A/D4 (io), 137 PT8D (io), 138 PT8C (io), 139 PT8A/D3 (io), 140 VSS (power), 141 PT7D (io), 142 PT7C (io), 143 PT7A/D2 (io), 144 PT6D/D1 (io), 145 PT6C (io), 146 PT6A/D0/DIN (io), 147 PT5D (io), 148 PT5C (io), 149 PT5A/DOUT (io), 150 VDD (power), 151 PT4D (io), 152 PT4C (io), 153 PT4B (io), 154 PT4A/TDI (io), 155 PT3A/TMS (io), 156 PT2A (io), 157 PT1D (io), 158 PT1A/TCK (io), 159 VSS (power), 160 RD_DATA/TDO (out)

## OR2C08A3M84I-D
designator U?
ORCA Series 2C FPGA: 5.0 V, Industrial Grade, 224 User I/Os.; Published: 21-May-2003; LatestRevisionDate: 13-Apr-2006; LatestRevisionNote: IPC-7351 Footprint Added.; DatasheetVersion: Jan-2003; PackageVersion: pkg_32, Aug-2005; PackageReference: PLCC84; Publisher: Altium Limited; PackageDescription: 84-Pin Leaded Chip Carrier 1.27 mm Pitch; Code_IPC: PLCC-84; ComponentLink1Description: Manufacturer Link; ComponentLink1URL: http://www.latticesemi.com/products/fpga/orca/orca2/index.cfm; ComponentLink2Description: Datasheet; ComponentLink2URL: http://www.latticesemi.com/lit/docs/datasheets/fpga/ds99-094fpga.pdf; ComponentLink3Description: Lattice Login; ComponentLink3URL: http://www.latticesemi.com/account/login.cfm
footprint PLCC84_N (Leaded Chip Carrier, 84-Leads, Body 29.3x29.3mm, Pitch 1.27mm, IPC Medium Density)
footprint PLCC84_L (Leaded Chip Carrier, 84-Leads, Body 29.3x29.3mm, Pitch 1.27mm, IPC High Density)
footprint PLCC84_M (Leaded Chip Carrier, 84-Leads, Body 29.3x29.3mm, Pitch 1.27mm, IPC Low Density)
3D model OR2C08A-PLCC84 (84-Pin Leaded Chip Carrier 1.27 mm Pitch)
pins: 1 VSS (power), 2 PT7A/D2 (io), 3 VSS (power), 4 PT6D/D1 (io), 5 PT6A/D0/DIN (io), 6 PT5A/DOUT (io), 7 PT4D (io), 8 PT4A/TDI (io), 9 PT3A/TMS (io), 10 PT1A/TCK (io), 11 RD_DATA/TDO (out), 12 VDD (power), 13 VSS (power), 14 PL2D/A0 (io), 15 PL3A/A1 (io), 16 PL4D/A2 (io), 17 PL4A/A3 (io), 18 PL5A/A4 (io), 19 PL6D/A5 (io), 20 PL6A/A6 (io), 21 PL7A/A7 (io), 22 VDD (power), 23 PL8A/A8 (io), 24 VSS (power), 25 PL9D/A9 (io), 26 PL9A/A10 (io), 27 PL10A/A11 (io), 28 PL11D/A12 (io), 29 PL11A/A13 (io), 30 PL12A/A14 (io), 31 PL14A/A15 (io), 32 CCLK (io), 33 VDD (power), 34 VSS (power), 35 PB1A/A16 (io), 36 PB3A/A17 (io), 37 PB3D (io), 38 PB4D (io), 39 PB5A (io), 40 PB6A (io), 41 PB6D (io), 42 PB7A (io), 43 VSS (power), 44 PB8A (io), 45 VSS (power), 46 PB9A (io), 47 PB9D (io), 48 PB10A/HDC (io), 49 PB11A/~{LDC} (io), 50 PB11D (io), 51 PB12C/~{INIT} (io), 52 PB13D (io), 53 DONE (io), 54 ~{RESET} (in), 55 ~{PRGM} (in), 56 PR14A/M0 (io), 57 PR12A (io), 58 PR11A/M1 (io), 59 PR11D (io), 60 PR10A/M2 (io), 61 PR9A/M3 (io), 62 PR9D (io), 63 PR8D (io), 64 VDD (power), 65 PR7A (io), 66 VSS (power), 67 PR6A (io), 68 PR6D (io), 69 PR5A/CS1 (io), 70 PR4A/~{CS0} (io), 71 PR4D (io), 72 PR3A/~{RD} (io), 73 PR2A/~{WR} (io), 74 ~{RD_CFG} (in), 75 VDD (power), 76 VSS (power), 77 PT13D/RDY/RCLK (io), 78 PT12C/D7 (io), 79 PT11D (io), 80 PT11B/D6 (io), 81 PT10A/D5 (io), 82 PT9D (io), 83 PT9A/D4 (io), 84 PT8A/D3 (io)

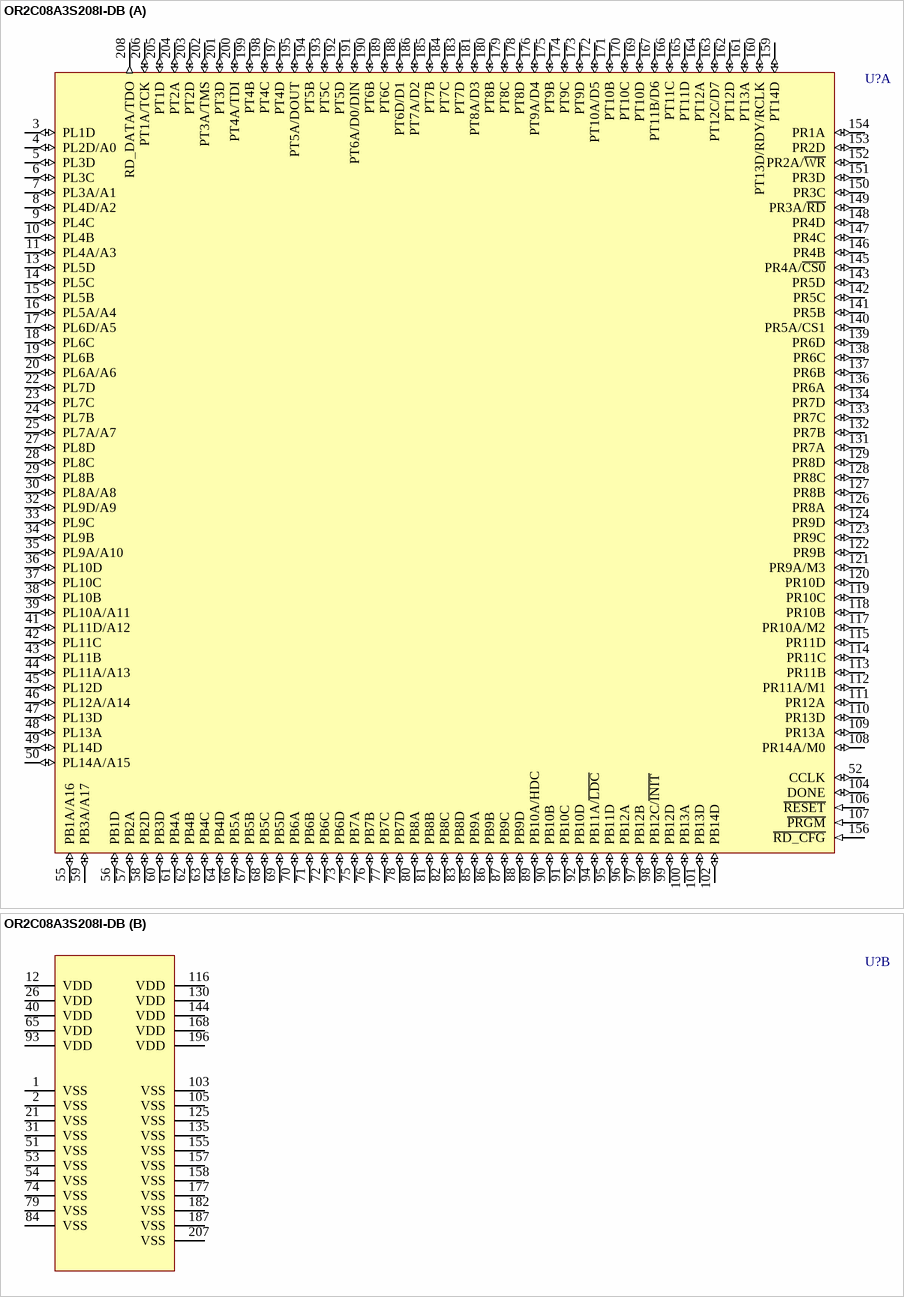
[diagram p14: symbol OR2C08A3S208I-DB]